# Altium integrated library Renesas Microcontroller R8C.IntLib: 628 symbols (part 10 of 33)
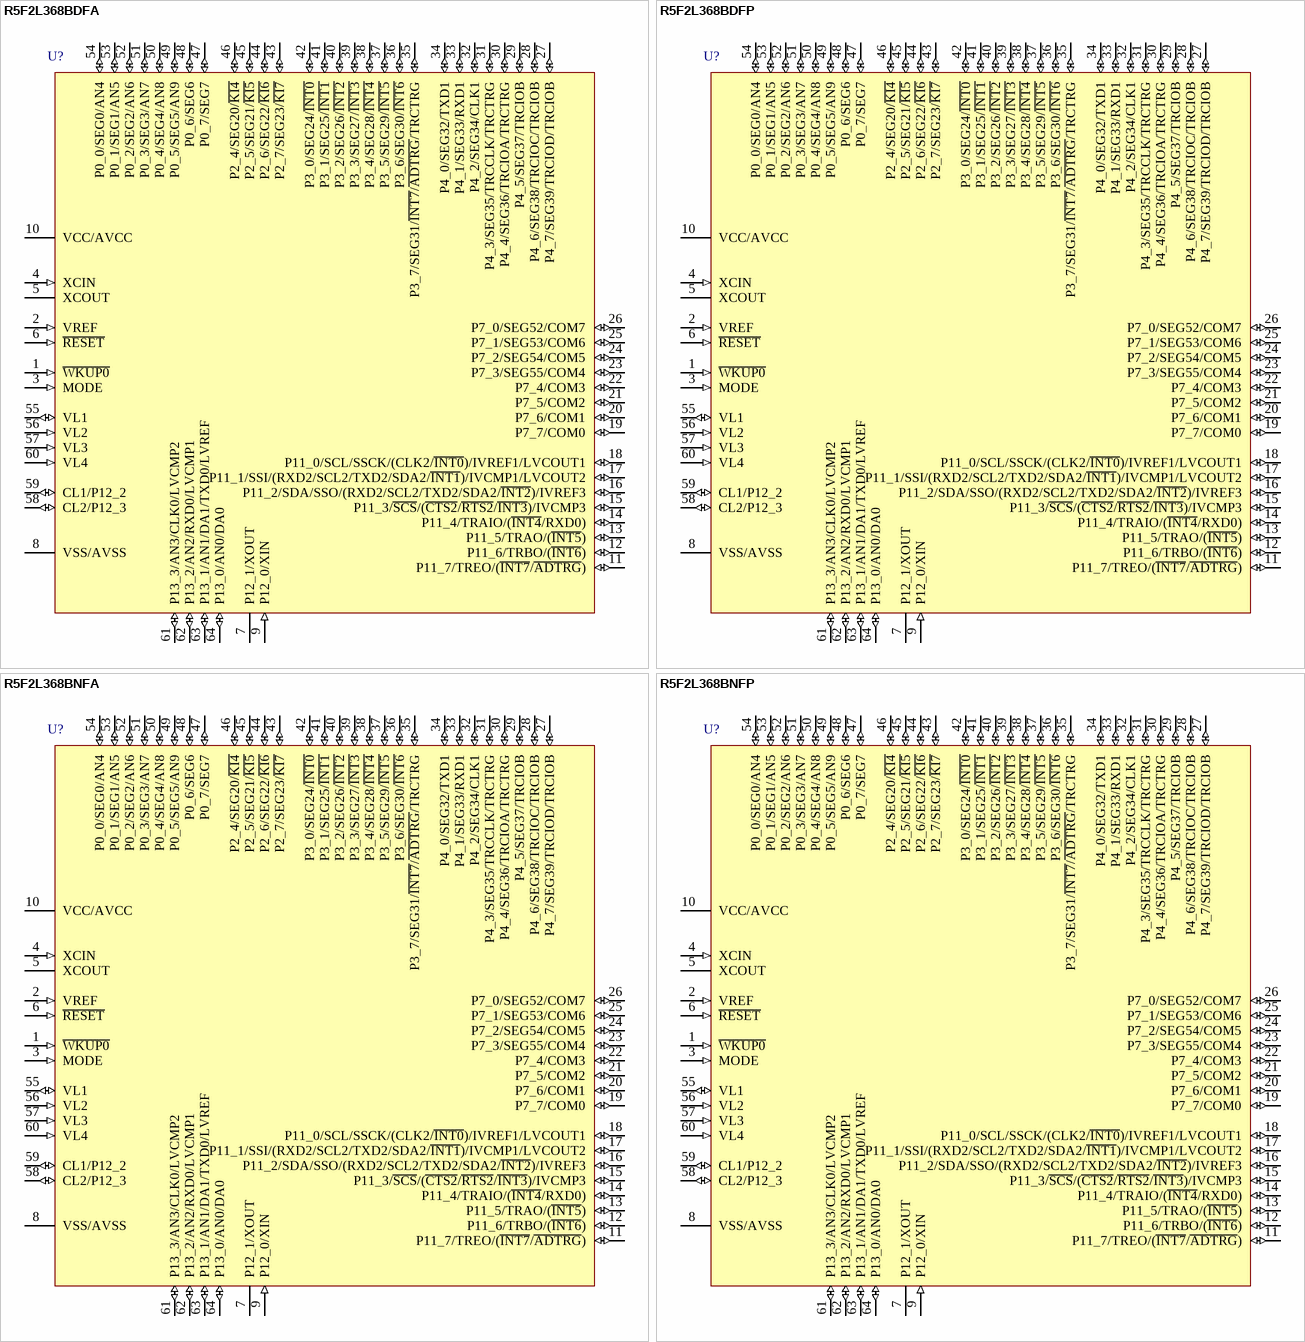
[diagram p125: symbols R5F2L368BDFA to R5F2L368BNFP]

## R5F2L368BNFP
designator U?
R8C/36B Group Single Chip 16-Bit CMOS MCU, 64K ROM, 8K RAM, N Version; Published: 30-Oct-2009; DatasheetVersion: Rev.0.30, Jan-2009; PackageVersion: Sep-2005; PackageReference: PLQP0064KB-A; Publisher: Altium Limited; PackageDescription: 64-Pin Plastic Low Profile QFP, 10 x 10 x 1.4 mm Body, 0.5 mm Pitch; Code_JEITA: P-LQFP64-10x10-0.50; Code_IPC: SQFP50P1200X1200-64; ComponentLink1Description: Manufacturer Link; ComponentLink1URL: http://sg.renesas.com/fmwk.jsp?cnt=r8c_family_landing.jsp&fp=/products/mpumcu/r8c_family/; ComponentLink2Description: Datasheet; ComponentLink2URL: http://documentation.renesas.com/eng/products/mpumcu/rej03b0243_r8cl35al35b_ds.pdf; ComponentLink3Description: Packaging Specification; ComponentLink3URL: http://sg.renesas.com/media/products/common_info/package/pdf/ic/code/plqp0064kb_a.pdf
footprint PLQP0064KB-A_N (Shrink QFP, 64-Leads, Body 10x10mm, Pitch 0.5mm, IPC Medium Density)
footprint PLQP0064KB-A_L (Shrink QFP, 64-Leads, Body 10x10mm, Pitch 0.5mm, IPC High Density)
footprint PLQP0064KB-A_M (Shrink QFP, 64-Leads, Body 10x10mm, Pitch 0.5mm, IPC Low Density)
pins: 1 ~{WKUP0} (in), 2 VREF (in), 3 MODE (in), 4 XCIN (in), 5 XCOUT, 6 ~{RESET} (in), 7 P12_1/XOUT, 8 VSS/AVSS (power), 9 P12_0/XIN (in), 10 VCC/AVCC (power), 11 P11_7/TREO/(~{INT7}/~{ADTRG}) (io), 12 P11_6/TRBO/(~{INT6}) (io), 13 P11_5/TRAO/(~{INT5}) (io), 14 P11_4/TRAIO/(~{INT4}/RXD0) (io), 15 P11_3/~{SCS}/(~{CTS2}/~{RTS2}/~{INT3})/IVCMP3 (io), 16 P11_2/SDA/SSO/(RXD2/SCL2/TXD2/SDA2/~{INT2})/IVREF3 (io), 17 P11_1/SSI/(RXD2/SCL2/TXD2/SDA2/~{INT1})/IVCMP1/LVCOUT2 (io), 18 P11_0/SCL/SSCK/(CLK2/~{INT0})/IVREF1/LVCOUT1 (io), 19 P7_7/COM0 (io), 20 P7_6/COM1 (io), 21 P7_5/COM2 (io), 22 P7_4/COM3 (io), 23 P7_3/SEG55/COM4 (io), 24 P7_2/SEG54/COM5 (io), 25 P7_1/SEG53/COM6 (io), 26 P7_0/SEG52/COM7 (io), 27 P4_7/SEG39/TRCIOD/TRCIOB (io), 28 P4_6/SEG38/TRCIOC/TRCIOB (io), 29 P4_5/SEG37/TRCIOB (io), 30 P4_4/SEG36/TRCIOA/TRCTRG (io), 31 P4_3/SEG35/TRCCLK/TRCTRG (io), 32 P4_2/SEG34/CLK1 (io), 33 P4_1/SEG33/RXD1 (io), 34 P4_0/SEG32/TXD1 (io), 35 P3_7/SEG31/~{INT7}/~{ADTRG}/TRCTRG (io), 36 P3_6/SEG30/~{INT6} (io), 37 P3_5/SEG29/~{INT5} (io), 38 P3_4/SEG28/~{INT4} (io), 39 P3_3/SEG27/~{INT3} (io), 40 P3_2/SEG26/~{INT2} (io), 41 P3_1/SEG25/~{INT1} (io), 42 P3_0/SEG24/~{INT0} (io), 43 P2_7/SEG23/~{KI7} (io), 44 P2_6/SEG22/~{KI6} (io), 45 P2_5/SEG21/~{KI5} (io), 46 P2_4/SEG20/~{KI4} (io), 47 P0_7/SEG7 (io), 48 P0_6/SEG6 (io), 49 P0_5/SEG5/AN9 (io), 50 P0_4/SEG4/AN8 (io), 51 P0_3/SEG3/AN7 (io), 52 P0_2/SEG2/AN6 (io), 53 P0_1/SEG1/AN5 (io), 54 P0_0/SEG0/AN4 (io), 55 VL1 (io), 56 VL2 (in), 57 VL3 (in), 58 CL2/P12_3 (io), 59 CL1/P12_2 (io), 60 VL4 (in), 61 P13_3/AN3/CLK0/LVCMP2 (io), 62 P13_2/AN2/RXD0/LVCMP1 (io), 63 P13_1/AN1/DA1/TXD0/LVREF (io), 64 P13_0/AN0/DA0 (io)

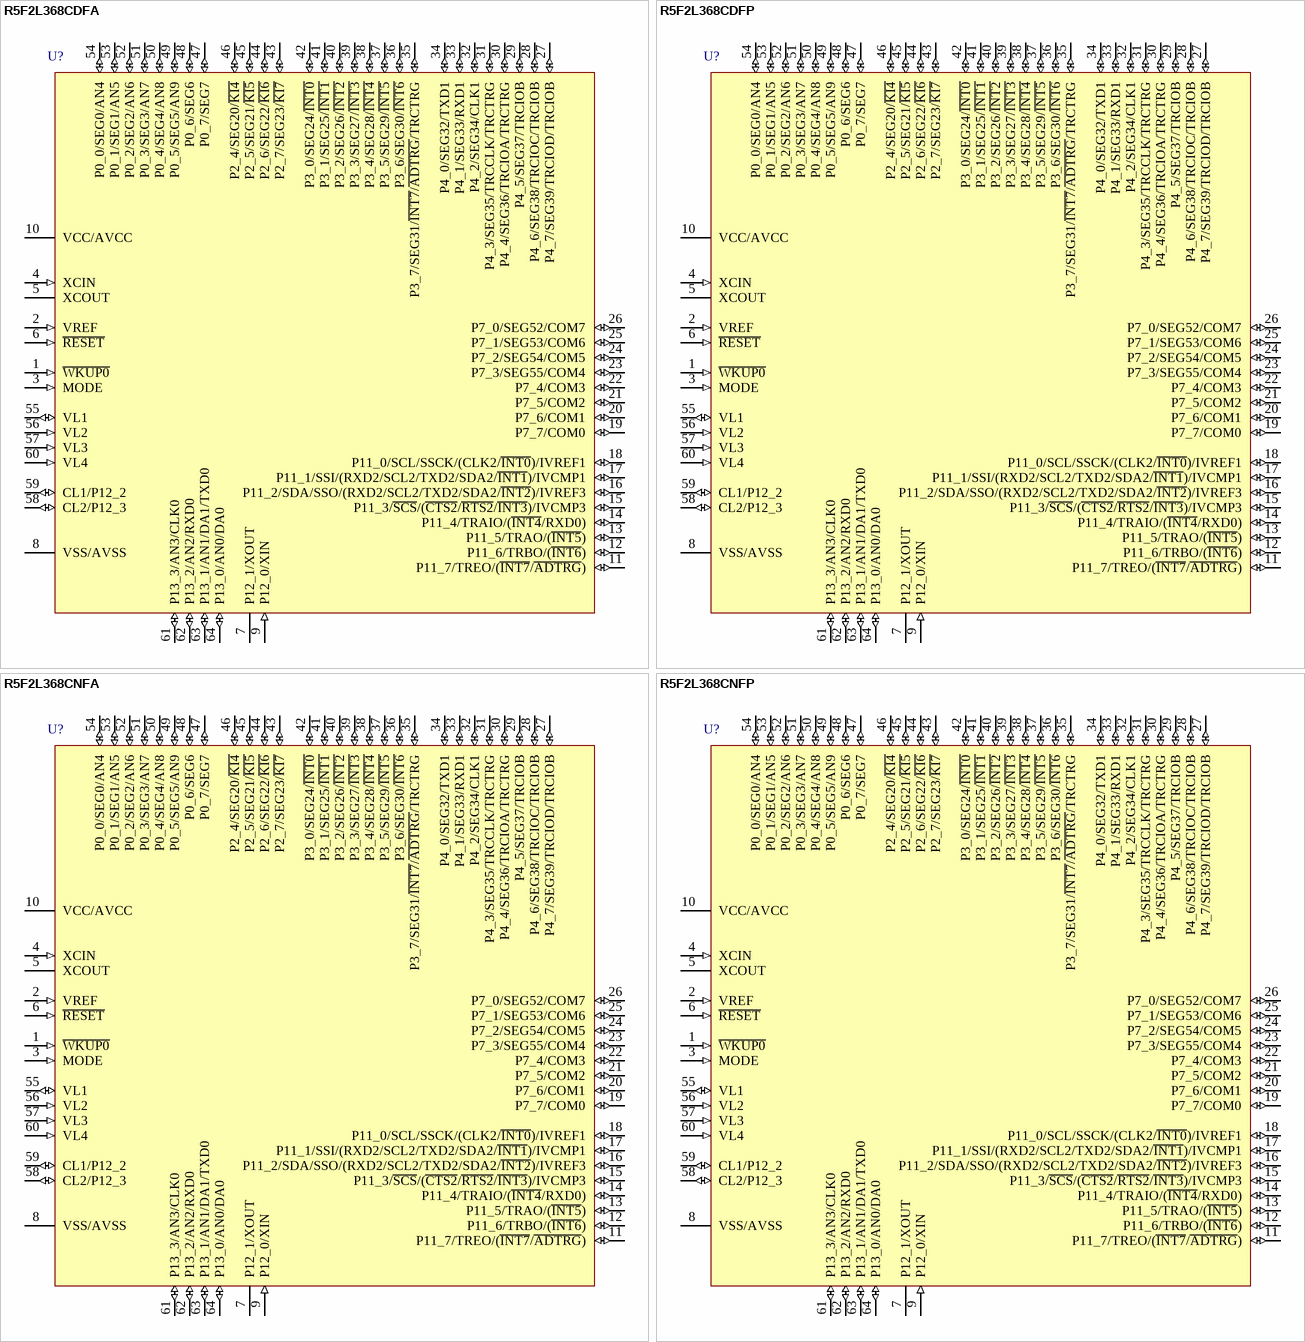
[diagram p35: symbols R5F2L368CDFA to R5F2L368CNFP]

## R5F2L368CDFA
designator U?
R8C/L36C Group Single Chip 16-Bit CMOS MCU, 64K + 4K ROM, 8K RAM, D Version; Published: 17-Feb-2010; DatasheetVersion: Rev.0.10, Oct-2009; PackageVersion: Oct-2005; PackageReference: PLQP0064GA-A; Publisher: Altium Limited; PackageDescription: 64-Pin Plastic Low Profile QFP, 14 x 14 x 1.4 mm Body, 0.8 mm Pitch; Code_JEITA: P-LQFP64-14x14-0.80; ComponentLink1Description: Manufacturer Link; ComponentLink1URL: http://sg.renesas.com/fmwk.jsp?cnt=r8c_family_landing.jsp&fp=/products/mpumcu/r8c_family/; ComponentLink2Description: Datasheet; ComponentLink2URL: http://documentation.renesas.com/eng/products/mpumcu/rej03b0293_r8cl3acds.pdf; ComponentLink3Description: Packaging Specification; ComponentLink3URL: http://sg.renesas.com/media/products/common_info/package/pdf/ic/code/plqp0064ga_a.pdf
footprint PLQP0064GA-A_N (QFP, 64-Leads, Body 14x14mm, Pitch 0.8mm, IPC Medium Density)
footprint PLQP0064GA-A_L (QFP, 64-Leads, Body 14x14mm, Pitch 0.8mm, IPC High Density)
footprint PLQP0064GA-A_M (QFP, 64-Leads, Body 14x14mm, Pitch 0.8mm, IPC Low Density)
pins: 1 ~{WKUP0} (in), 2 VREF (in), 3 MODE (in), 4 XCIN (in), 5 XCOUT, 6 ~{RESET} (in), 7 P12_1/XOUT, 8 VSS/AVSS (power), 9 P12_0/XIN (in), 10 VCC/AVCC (power), 11 P11_7/TREO/(~{INT7}/~{ADTRG}) (io), 12 P11_6/TRBO/(~{INT6}) (io), 13 P11_5/TRAO/(~{INT5}) (io), 14 P11_4/TRAIO/(~{INT4}/RXD0) (io), 15 P11_3/~{SCS}/(~{CTS2}/~{RTS2}/~{INT3})/IVCMP3 (io), 16 P11_2/SDA/SSO/(RXD2/SCL2/TXD2/SDA2/~{INT2})/IVREF3 (io), 17 P11_1/SSI/(RXD2/SCL2/TXD2/SDA2/~{INT1})/IVCMP1 (io), 18 P11_0/SCL/SSCK/(CLK2/~{INT0})/IVREF1 (io), 19 P7_7/COM0 (io), 20 P7_6/COM1 (io), 21 P7_5/COM2 (io), 22 P7_4/COM3 (io), 23 P7_3/SEG55/COM4 (io), 24 P7_2/SEG54/COM5 (io), 25 P7_1/SEG53/COM6 (io), 26 P7_0/SEG52/COM7 (io), 27 P4_7/SEG39/TRCIOD/TRCIOB (io), 28 P4_6/SEG38/TRCIOC/TRCIOB (io), 29 P4_5/SEG37/TRCIOB (io), 30 P4_4/SEG36/TRCIOA/TRCTRG (io), 31 P4_3/SEG35/TRCCLK/TRCTRG (io), 32 P4_2/SEG34/CLK1 (io), 33 P4_1/SEG33/RXD1 (io), 34 P4_0/SEG32/TXD1 (io), 35 P3_7/SEG31/~{INT7}/~{ADTRG}/TRCTRG (io), 36 P3_6/SEG30/~{INT6} (io), 37 P3_5/SEG29/~{INT5} (io), 38 P3_4/SEG28/~{INT4} (io), 39 P3_3/SEG27/~{INT3} (io), 40 P3_2/SEG26/~{INT2} (io), 41 P3_1/SEG25/~{INT1} (io), 42 P3_0/SEG24/~{INT0} (io), 43 P2_7/SEG23/~{KI7} (io), 44 P2_6/SEG22/~{KI6} (io), 45 P2_5/SEG21/~{KI5} (io), 46 P2_4/SEG20/~{KI4} (io), 47 P0_7/SEG7 (io), 48 P0_6/SEG6 (io), 49 P0_5/SEG5/AN9 (io), 50 P0_4/SEG4/AN8 (io), 51 P0_3/SEG3/AN7 (io), 52 P0_2/SEG2/AN6 (io), 53 P0_1/SEG1/AN5 (io), 54 P0_0/SEG0/AN4 (io), 55 VL1 (io), 56 VL2 (in), 57 VL3 (in), 58 CL2/P12_3 (io), 59 CL1/P12_2 (io), 60 VL4 (in), 61 P13_3/AN3/CLK0 (io), 62 P13_2/AN2/RXD0 (io), 63 P13_1/AN1/DA1/TXD0 (io), 64 P13_0/AN0/DA0 (io)

## R5F2L368CDFP
designator U?
R8C/L36C Group Single Chip 16-Bit CMOS MCU, 64K + 4K ROM, 8K RAM, D Version; Published: 17-Feb-2010; DatasheetVersion: Rev.0.10, Oct-2009; PackageVersion: Sep-2005; PackageReference: PLQP0064KB-A; Publisher: Altium Limited; PackageDescription: 64-Pin Plastic Low Profile QFP, 10 x 10 x 1.4 mm Body, 0.5 mm Pitch; Code_JEITA: P-LQFP64-10x10-0.50; Code_IPC: SQFP50P1200X1200-64; ComponentLink1Description: Manufacturer Link; ComponentLink1URL: http://sg.renesas.com/fmwk.jsp?cnt=r8c_family_landing.jsp&fp=/products/mpumcu/r8c_family/; ComponentLink2Description: Datasheet; ComponentLink2URL: http://documentation.renesas.com/eng/products/mpumcu/rej03b0293_r8cl3acds.pdf; ComponentLink3Description: Packaging Specification; ComponentLink3URL: http://sg.renesas.com/media/products/common_info/package/pdf/ic/code/plqp0064kb_a.pdf
footprint PLQP0064KB-A_N (Shrink QFP, 64-Leads, Body 10x10mm, Pitch 0.5mm, IPC Medium Density)
footprint PLQP0064KB-A_L (Shrink QFP, 64-Leads, Body 10x10mm, Pitch 0.5mm, IPC High Density)
footprint PLQP0064KB-A_M (Shrink QFP, 64-Leads, Body 10x10mm, Pitch 0.5mm, IPC Low Density)
pins: 1 ~{WKUP0} (in), 2 VREF (in), 3 MODE (in), 4 XCIN (in), 5 XCOUT, 6 ~{RESET} (in), 7 P12_1/XOUT, 8 VSS/AVSS (power), 9 P12_0/XIN (in), 10 VCC/AVCC (power), 11 P11_7/TREO/(~{INT7}/~{ADTRG}) (io), 12 P11_6/TRBO/(~{INT6}) (io), 13 P11_5/TRAO/(~{INT5}) (io), 14 P11_4/TRAIO/(~{INT4}/RXD0) (io), 15 P11_3/~{SCS}/(~{CTS2}/~{RTS2}/~{INT3})/IVCMP3 (io), 16 P11_2/SDA/SSO/(RXD2/SCL2/TXD2/SDA2/~{INT2})/IVREF3 (io), 17 P11_1/SSI/(RXD2/SCL2/TXD2/SDA2/~{INT1})/IVCMP1 (io), 18 P11_0/SCL/SSCK/(CLK2/~{INT0})/IVREF1 (io), 19 P7_7/COM0 (io), 20 P7_6/COM1 (io), 21 P7_5/COM2 (io), 22 P7_4/COM3 (io), 23 P7_3/SEG55/COM4 (io), 24 P7_2/SEG54/COM5 (io), 25 P7_1/SEG53/COM6 (io), 26 P7_0/SEG52/COM7 (io), 27 P4_7/SEG39/TRCIOD/TRCIOB (io), 28 P4_6/SEG38/TRCIOC/TRCIOB (io), 29 P4_5/SEG37/TRCIOB (io), 30 P4_4/SEG36/TRCIOA/TRCTRG (io), 31 P4_3/SEG35/TRCCLK/TRCTRG (io), 32 P4_2/SEG34/CLK1 (io), 33 P4_1/SEG33/RXD1 (io), 34 P4_0/SEG32/TXD1 (io), 35 P3_7/SEG31/~{INT7}/~{ADTRG}/TRCTRG (io), 36 P3_6/SEG30/~{INT6} (io), 37 P3_5/SEG29/~{INT5} (io), 38 P3_4/SEG28/~{INT4} (io), 39 P3_3/SEG27/~{INT3} (io), 40 P3_2/SEG26/~{INT2} (io), 41 P3_1/SEG25/~{INT1} (io), 42 P3_0/SEG24/~{INT0} (io), 43 P2_7/SEG23/~{KI7} (io), 44 P2_6/SEG22/~{KI6} (io), 45 P2_5/SEG21/~{KI5} (io), 46 P2_4/SEG20/~{KI4} (io), 47 P0_7/SEG7 (io), 48 P0_6/SEG6 (io), 49 P0_5/SEG5/AN9 (io), 50 P0_4/SEG4/AN8 (io), 51 P0_3/SEG3/AN7 (io), 52 P0_2/SEG2/AN6 (io), 53 P0_1/SEG1/AN5 (io), 54 P0_0/SEG0/AN4 (io), 55 VL1 (io), 56 VL2 (in), 57 VL3 (in), 58 CL2/P12_3 (io), 59 CL1/P12_2 (io), 60 VL4 (in), 61 P13_3/AN3/CLK0 (io), 62 P13_2/AN2/RXD0 (io), 63 P13_1/AN1/DA1/TXD0 (io), 64 P13_0/AN0/DA0 (io)

## R5F2L368CNFA
designator U?
R8C/L36C Group Single Chip 16-Bit CMOS MCU, 64K + 4K ROM, 8K RAM, N Version; Published: 17-Feb-2010; DatasheetVersion: Rev.0.10, Oct-2009; PackageVersion: Oct-2005; PackageReference: PLQP0064GA-A; Publisher: Altium Limited; PackageDescription: 64-Pin Plastic Low Profile QFP, 14 x 14 x 1.4 mm Body, 0.8 mm Pitch; Code_JEITA: P-LQFP64-14x14-0.80; ComponentLink1Description: Manufacturer Link; ComponentLink1URL: http://sg.renesas.com/fmwk.jsp?cnt=r8c_family_landing.jsp&fp=/products/mpumcu/r8c_family/; ComponentLink2Description: Datasheet; ComponentLink2URL: http://documentation.renesas.com/eng/products/mpumcu/rej03b0293_r8cl3acds.pdf; ComponentLink3Description: Packaging Specification; ComponentLink3URL: http://sg.renesas.com/media/products/common_info/package/pdf/ic/code/plqp0064ga_a.pdf
footprint PLQP0064GA-A_N (QFP, 64-Leads, Body 14x14mm, Pitch 0.8mm, IPC Medium Density)
footprint PLQP0064GA-A_L (QFP, 64-Leads, Body 14x14mm, Pitch 0.8mm, IPC High Density)
footprint PLQP0064GA-A_M (QFP, 64-Leads, Body 14x14mm, Pitch 0.8mm, IPC Low Density)
pins: 1 ~{WKUP0} (in), 2 VREF (in), 3 MODE (in), 4 XCIN (in), 5 XCOUT, 6 ~{RESET} (in), 7 P12_1/XOUT, 8 VSS/AVSS (power), 9 P12_0/XIN (in), 10 VCC/AVCC (power), 11 P11_7/TREO/(~{INT7}/~{ADTRG}) (io), 12 P11_6/TRBO/(~{INT6}) (io), 13 P11_5/TRAO/(~{INT5}) (io), 14 P11_4/TRAIO/(~{INT4}/RXD0) (io), 15 P11_3/~{SCS}/(~{CTS2}/~{RTS2}/~{INT3})/IVCMP3 (io), 16 P11_2/SDA/SSO/(RXD2/SCL2/TXD2/SDA2/~{INT2})/IVREF3 (io), 17 P11_1/SSI/(RXD2/SCL2/TXD2/SDA2/~{INT1})/IVCMP1 (io), 18 P11_0/SCL/SSCK/(CLK2/~{INT0})/IVREF1 (io), 19 P7_7/COM0 (io), 20 P7_6/COM1 (io), 21 P7_5/COM2 (io), 22 P7_4/COM3 (io), 23 P7_3/SEG55/COM4 (io), 24 P7_2/SEG54/COM5 (io), 25 P7_1/SEG53/COM6 (io), 26 P7_0/SEG52/COM7 (io), 27 P4_7/SEG39/TRCIOD/TRCIOB (io), 28 P4_6/SEG38/TRCIOC/TRCIOB (io), 29 P4_5/SEG37/TRCIOB (io), 30 P4_4/SEG36/TRCIOA/TRCTRG (io), 31 P4_3/SEG35/TRCCLK/TRCTRG (io), 32 P4_2/SEG34/CLK1 (io), 33 P4_1/SEG33/RXD1 (io), 34 P4_0/SEG32/TXD1 (io), 35 P3_7/SEG31/~{INT7}/~{ADTRG}/TRCTRG (io), 36 P3_6/SEG30/~{INT6} (io), 37 P3_5/SEG29/~{INT5} (io), 38 P3_4/SEG28/~{INT4} (io), 39 P3_3/SEG27/~{INT3} (io), 40 P3_2/SEG26/~{INT2} (io), 41 P3_1/SEG25/~{INT1} (io), 42 P3_0/SEG24/~{INT0} (io), 43 P2_7/SEG23/~{KI7} (io), 44 P2_6/SEG22/~{KI6} (io), 45 P2_5/SEG21/~{KI5} (io), 46 P2_4/SEG20/~{KI4} (io), 47 P0_7/SEG7 (io), 48 P0_6/SEG6 (io), 49 P0_5/SEG5/AN9 (io), 50 P0_4/SEG4/AN8 (io), 51 P0_3/SEG3/AN7 (io), 52 P0_2/SEG2/AN6 (io), 53 P0_1/SEG1/AN5 (io), 54 P0_0/SEG0/AN4 (io), 55 VL1 (io), 56 VL2 (in), 57 VL3 (in), 58 CL2/P12_3 (io), 59 CL1/P12_2 (io), 60 VL4 (in), 61 P13_3/AN3/CLK0 (io), 62 P13_2/AN2/RXD0 (io), 63 P13_1/AN1/DA1/TXD0 (io), 64 P13_0/AN0/DA0 (io)

## R5F2L368CNFP
designator U?
R8C/L36C Group Single Chip 16-Bit CMOS MCU, 64K + 4K ROM, 8K RAM, N Version; Published: 17-Feb-2010; DatasheetVersion: Rev.0.10, Oct-2009; PackageVersion: Sep-2005; PackageReference: PLQP0064KB-A; Publisher: Altium Limited; PackageDescription: 64-Pin Plastic Low Profile QFP, 10 x 10 x 1.4 mm Body, 0.5 mm Pitch; Code_JEITA: P-LQFP64-10x10-0.50; Code_IPC: SQFP50P1200X1200-64; ComponentLink1Description: Manufacturer Link; ComponentLink1URL: http://sg.renesas.com/fmwk.jsp?cnt=r8c_family_landing.jsp&fp=/products/mpumcu/r8c_family/; ComponentLink2Description: Datasheet; ComponentLink2URL: http://documentation.renesas.com/eng/products/mpumcu/rej03b0293_r8cl3acds.pdf; ComponentLink3Description: Packaging Specification; ComponentLink3URL: http://sg.renesas.com/media/products/common_info/package/pdf/ic/code/plqp0064kb_a.pdf
footprint PLQP0064KB-A_N (Shrink QFP, 64-Leads, Body 10x10mm, Pitch 0.5mm, IPC Medium Density)
footprint PLQP0064KB-A_L (Shrink QFP, 64-Leads, Body 10x10mm, Pitch 0.5mm, IPC High Density)
footprint PLQP0064KB-A_M (Shrink QFP, 64-Leads, Body 10x10mm, Pitch 0.5mm, IPC Low Density)
pins: 1 ~{WKUP0} (in), 2 VREF (in), 3 MODE (in), 4 XCIN (in), 5 XCOUT, 6 ~{RESET} (in), 7 P12_1/XOUT, 8 VSS/AVSS (power), 9 P12_0/XIN (in), 10 VCC/AVCC (power), 11 P11_7/TREO/(~{INT7}/~{ADTRG}) (io), 12 P11_6/TRBO/(~{INT6}) (io), 13 P11_5/TRAO/(~{INT5}) (io), 14 P11_4/TRAIO/(~{INT4}/RXD0) (io), 15 P11_3/~{SCS}/(~{CTS2}/~{RTS2}/~{INT3})/IVCMP3 (io), 16 P11_2/SDA/SSO/(RXD2/SCL2/TXD2/SDA2/~{INT2})/IVREF3 (io), 17 P11_1/SSI/(RXD2/SCL2/TXD2/SDA2/~{INT1})/IVCMP1 (io), 18 P11_0/SCL/SSCK/(CLK2/~{INT0})/IVREF1 (io), 19 P7_7/COM0 (io), 20 P7_6/COM1 (io), 21 P7_5/COM2 (io), 22 P7_4/COM3 (io), 23 P7_3/SEG55/COM4 (io), 24 P7_2/SEG54/COM5 (io), 25 P7_1/SEG53/COM6 (io), 26 P7_0/SEG52/COM7 (io), 27 P4_7/SEG39/TRCIOD/TRCIOB (io), 28 P4_6/SEG38/TRCIOC/TRCIOB (io), 29 P4_5/SEG37/TRCIOB (io), 30 P4_4/SEG36/TRCIOA/TRCTRG (io), 31 P4_3/SEG35/TRCCLK/TRCTRG (io), 32 P4_2/SEG34/CLK1 (io), 33 P4_1/SEG33/RXD1 (io), 34 P4_0/SEG32/TXD1 (io), 35 P3_7/SEG31/~{INT7}/~{ADTRG}/TRCTRG (io), 36 P3_6/SEG30/~{INT6} (io), 37 P3_5/SEG29/~{INT5} (io), 38 P3_4/SEG28/~{INT4} (io), 39 P3_3/SEG27/~{INT3} (io), 40 P3_2/SEG26/~{INT2} (io), 41 P3_1/SEG25/~{INT1} (io), 42 P3_0/SEG24/~{INT0} (io), 43 P2_7/SEG23/~{KI7} (io), 44 P2_6/SEG22/~{KI6} (io), 45 P2_5/SEG21/~{KI5} (io), 46 P2_4/SEG20/~{KI4} (io), 47 P0_7/SEG7 (io), 48 P0_6/SEG6 (io), 49 P0_5/SEG5/AN9 (io), 50 P0_4/SEG4/AN8 (io), 51 P0_3/SEG3/AN7 (io), 52 P0_2/SEG2/AN6 (io), 53 P0_1/SEG1/AN5 (io), 54 P0_0/SEG0/AN4 (io), 55 VL1 (io), 56 VL2 (in), 57 VL3 (in), 58 CL2/P12_3 (io), 59 CL1/P12_2 (io), 60 VL4 (in), 61 P13_3/AN3/CLK0 (io), 62 P13_2/AN2/RXD0 (io), 63 P13_1/AN1/DA1/TXD0 (io), 64 P13_0/AN0/DA0 (io)

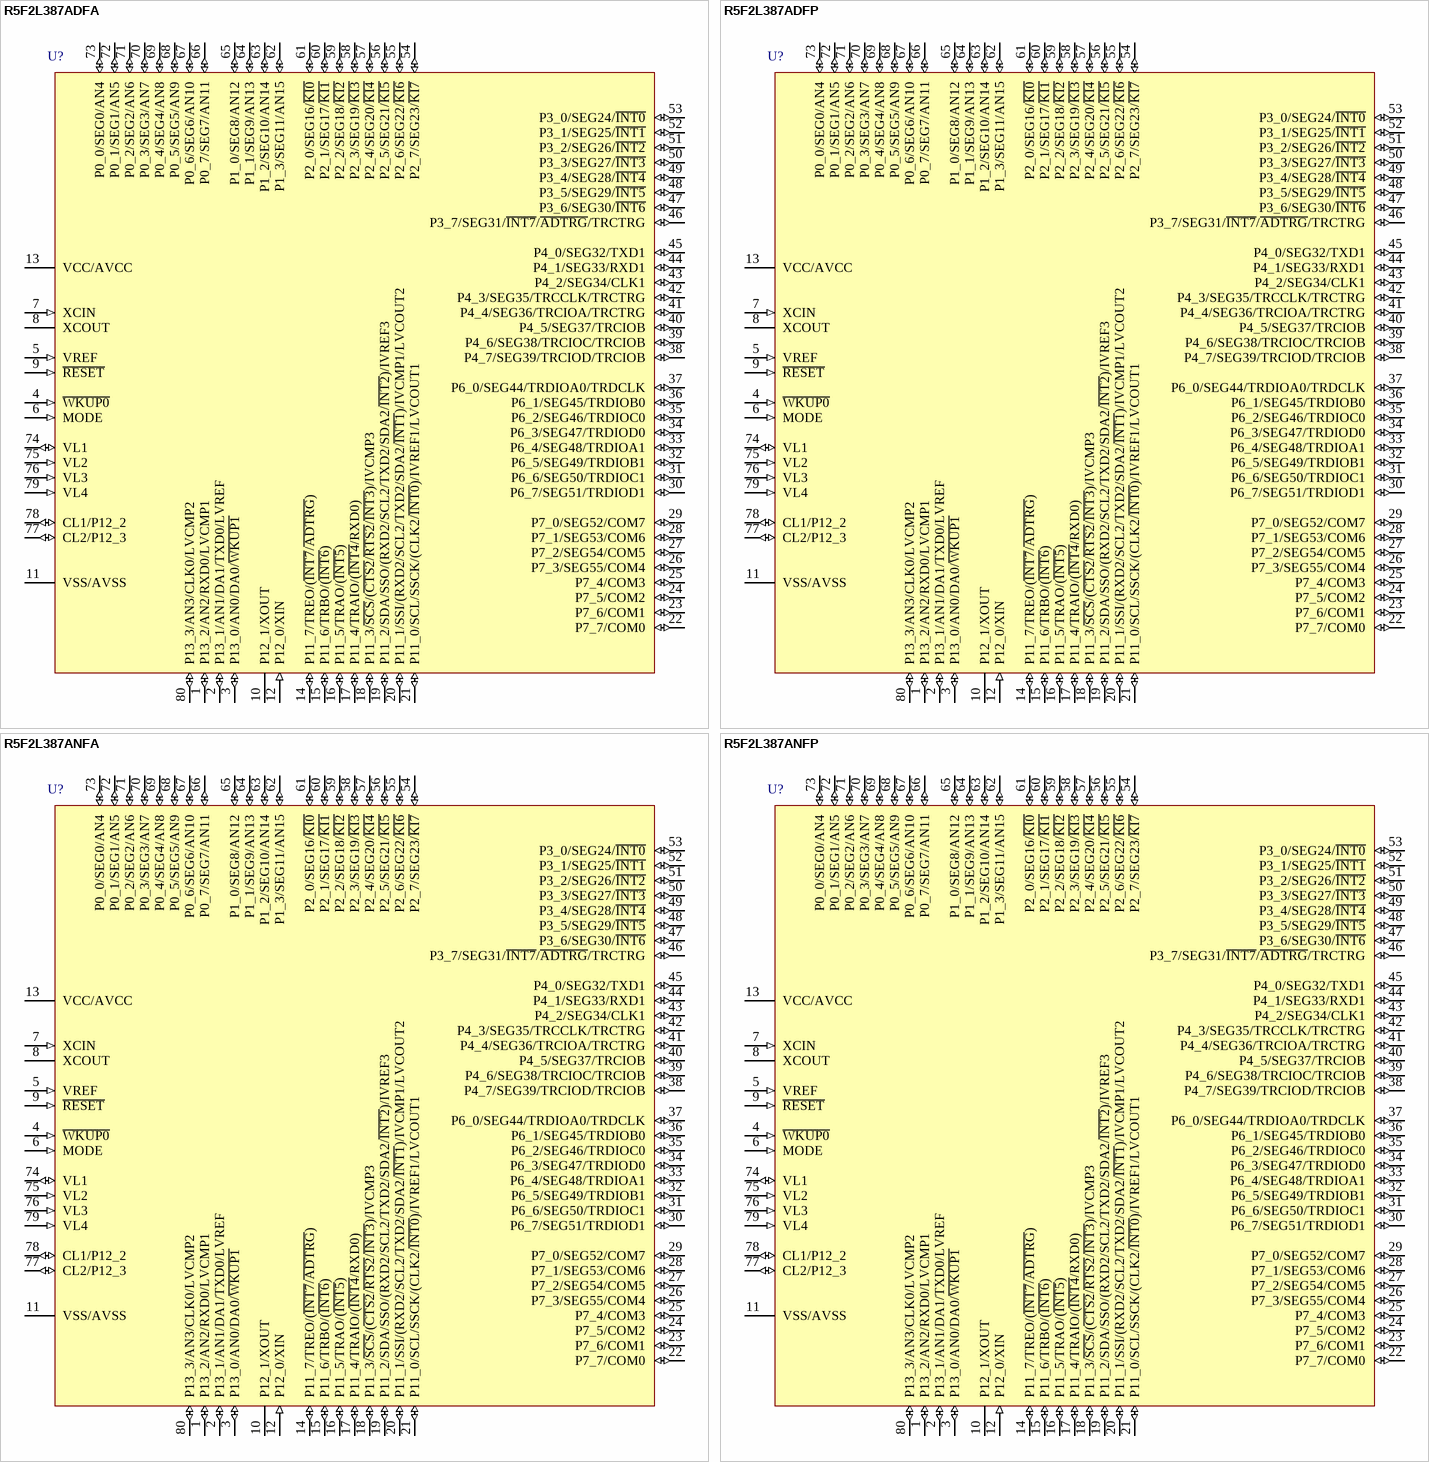
[diagram p36: symbols R5F2L387ADFA to R5F2L387ANFP]

## R5F2L387ADFA
designator U?
R8C/38A Group Single Chip 16-Bit CMOS MCU, 48K ROM + 1K x4 Data Flash, 6K RAM, D Version; Published: 30-Oct-2009; DatasheetVersion: Rev.0.30, Jan-2009; PackageVersion: Sep-2005; PackageReference: PLQP0080JA-A; Publisher: Altium Limited; PackageDescription: 80-Pin Plastic Low Profile QFP, 14 x 14 x 1.4 mm Body, 0.65 mm Pitch; Code_JEITA: P-LQFP80-14x14-0.65; ComponentLink1Description: Manufacturer Link; ComponentLink1URL: http://sg.renesas.com/fmwk.jsp?cnt=r8c_family_landing.jsp&fp=/products/mpumcu/r8c_family/; ComponentLink2Description: Datasheet; ComponentLink2URL: http://documentation.renesas.com/eng/products/mpumcu/rej03b0243_r8cl35al35b_ds.pdf; ComponentLink3Description: Packaging Specification; ComponentLink3URL: http://sg.renesas.com/media/products/common_info/package/pdf/ic/code/plqp0080ja_a.pdf
footprint PLQP0080JA-A_N (QFP, 80-Leads, Body 14x14mm, Pitch 0.65mm, IPC Medium Density)
footprint PLQP0080JA-A_L (QFP, 80-Leads, Body 14x14mm, Pitch 0.65mm, IPC High Density)
footprint PLQP0080JA-A_M (QFP, 80-Leads, Body 14x14mm, Pitch 0.65mm, IPC Low Density)
pins: 1 P13_2/AN2/RXD0/LVCMP1 (io), 2 P13_1/AN1/DA1/TXD0/LVREF (io), 3 P13_0/AN0/DA0/~{WKUP1} (io), 4 ~{WKUP0} (in), 5 VREF (in), 6 MODE (in), 7 XCIN (in), 8 XCOUT, 9 ~{RESET} (in), 10 P12_1/XOUT, 11 VSS/AVSS (power), 12 P12_0/XIN (in), 13 VCC/AVCC (power), 14 P11_7/TREO/(~{INT7}/~{ADTRG}) (io), 15 P11_6/TRBO/(~{INT6}) (io), 16 P11_5/TRAO/(~{INT5}) (io), 17 P11_4/TRAIO/(~{INT4}/RXD0) (io), 18 P11_3/~{SCS}/(~{CTS2}/~{RTS2}/~{INT3})/IVCMP3 (io), 19 P11_2/SDA/SSO/(RXD2/SCL2/TXD2/SDA2/~{INT2})/IVREF3 (io), 20 P11_1/SSI/(RXD2/SCL2/TXD2/SDA2/~{INT1})/IVCMP1/LVCOUT2 (io), 21 P11_0/SCL/SSCK/(CLK2/~{INT0})/IVREF1/LVCOUT1 (io), 22 P7_7/COM0 (io), 23 P7_6/COM1 (io), 24 P7_5/COM2 (io), 25 P7_4/COM3 (io), 26 P7_3/SEG55/COM4 (io), 27 P7_2/SEG54/COM5 (io), 28 P7_1/SEG53/COM6 (io), 29 P7_0/SEG52/COM7 (io), 30 P6_7/SEG51/TRDIOD1 (io), 31 P6_6/SEG50/TRDIOC1 (io), 32 P6_5/SEG49/TRDIOB1 (io), 33 P6_4/SEG48/TRDIOA1 (io), 34 P6_3/SEG47/TRDIOD0 (io), 35 P6_2/SEG46/TRDIOC0 (io), 36 P6_1/SEG45/TRDIOB0 (io), 37 P6_0/SEG44/TRDIOA0/TRDCLK (io), 38 P4_7/SEG39/TRCIOD/TRCIOB (io), 39 P4_6/SEG38/TRCIOC/TRCIOB (io), 40 P4_5/SEG37/TRCIOB (io), 41 P4_4/SEG36/TRCIOA/TRCTRG (io), 42 P4_3/SEG35/TRCCLK/TRCTRG (io), 43 P4_2/SEG34/CLK1 (io), 44 P4_1/SEG33/RXD1 (io), 45 P4_0/SEG32/TXD1 (io), 46 P3_7/SEG31/~{INT7}/~{ADTRG}/TRCTRG (io), 47 P3_6/SEG30/~{INT6} (io), 48 P3_5/SEG29/~{INT5} (io), 49 P3_4/SEG28/~{INT4} (io), 50 P3_3/SEG27/~{INT3} (io), 51 P3_2/SEG26/~{INT2} (io), 52 P3_1/SEG25/~{INT1} (io), 53 P3_0/SEG24/~{INT0} (io), 54 P2_7/SEG23/~{KI7} (io), 55 P2_6/SEG22/~{KI6} (io), 56 P2_5/SEG21/~{KI5} (io), 57 P2_4/SEG20/~{KI4} (io), 58 P2_3/SEG19/~{KI3} (io), 59 P2_2/SEG18/~{KI2} (io), 60 P2_1/SEG17/~{KI1} (io), 61 P2_0/SEG16/~{KI0} (io), 62 P1_3/SEG11/AN15 (io), 63 P1_2/SEG10/AN14 (io), 64 P1_1/SEG9/AN13 (io), 65 P1_0/SEG8/AN12 (io), 66 P0_7/SEG7/AN11 (io), 67 P0_6/SEG6/AN10 (io), 68 P0_5/SEG5/AN9 (io), 69 P0_4/SEG4/AN8 (io), 70 P0_3/SEG3/AN7 (io), 71 P0_2/SEG2/AN6 (io), 72 P0_1/SEG1/AN5 (io), 73 P0_0/SEG0/AN4 (io), 74 VL1 (io), 75 VL2 (in), 76 VL3 (in), 77 CL2/P12_3 (io), 78 CL1/P12_2 (io), 79 VL4 (in), 80 P13_3/AN3/CLK0/LVCMP2 (io)

## R5F2L387ADFP
designator U?
R8C/38A Group Single Chip 16-Bit CMOS MCU, 48K ROM + 1K x4 Data Flash, 6K RAM, D Version; Published: 30-Oct-2009; DatasheetVersion: Rev.0.30, Jan-2009; PackageVersion: Sep-2005; PackageReference: PLQP0080KB-A; Publisher: Altium Limited; PackageDescription: 80-Pin Plastic Low Profile QFP, 12 x 12 x 1.4 mm Body, 0.5 mm Pitch; Code_JEITA: P-LQFP80-12x12-0.50; Code_IPC: SQFP50P1400X1400-80; ComponentLink1Description: Manufacturer Link; ComponentLink1URL: http://sg.renesas.com/fmwk.jsp?cnt=r8c_family_landing.jsp&fp=/products/mpumcu/r8c_family/; ComponentLink2Description: Datasheet; ComponentLink2URL: http://documentation.renesas.com/eng/products/mpumcu/rej03b0243_r8cl35al35b_ds.pdf; ComponentLink3Description: Packaging Specification; ComponentLink3URL: http://sg.renesas.com/media/products/common_info/package/pdf/ic/code/plqp0080kb_a.pdf
footprint PLQP0080KB-A_N (Shrink QFP, 80-Leads, Body 12x12mm, Pitch 0.5mm, IPC Medium Density)
footprint PLQP0080KB-A_L (Shrink QFP, 80-Leads, Body 12x12mm, Pitch 0.5mm, IPC High Density)
footprint PLQP0080KB-A_M (Shrink QFP, 80-Leads, Body 12x12mm, Pitch 0.5mm, IPC Low Density)
pins: 1 P13_2/AN2/RXD0/LVCMP1 (io), 2 P13_1/AN1/DA1/TXD0/LVREF (io), 3 P13_0/AN0/DA0/~{WKUP1} (io), 4 ~{WKUP0} (in), 5 VREF (in), 6 MODE (in), 7 XCIN (in), 8 XCOUT, 9 ~{RESET} (in), 10 P12_1/XOUT, 11 VSS/AVSS (power), 12 P12_0/XIN (in), 13 VCC/AVCC (power), 14 P11_7/TREO/(~{INT7}/~{ADTRG}) (io), 15 P11_6/TRBO/(~{INT6}) (io), 16 P11_5/TRAO/(~{INT5}) (io), 17 P11_4/TRAIO/(~{INT4}/RXD0) (io), 18 P11_3/~{SCS}/(~{CTS2}/~{RTS2}/~{INT3})/IVCMP3 (io), 19 P11_2/SDA/SSO/(RXD2/SCL2/TXD2/SDA2/~{INT2})/IVREF3 (io), 20 P11_1/SSI/(RXD2/SCL2/TXD2/SDA2/~{INT1})/IVCMP1/LVCOUT2 (io), 21 P11_0/SCL/SSCK/(CLK2/~{INT0})/IVREF1/LVCOUT1 (io), 22 P7_7/COM0 (io), 23 P7_6/COM1 (io), 24 P7_5/COM2 (io), 25 P7_4/COM3 (io), 26 P7_3/SEG55/COM4 (io), 27 P7_2/SEG54/COM5 (io), 28 P7_1/SEG53/COM6 (io), 29 P7_0/SEG52/COM7 (io), 30 P6_7/SEG51/TRDIOD1 (io), 31 P6_6/SEG50/TRDIOC1 (io), 32 P6_5/SEG49/TRDIOB1 (io), 33 P6_4/SEG48/TRDIOA1 (io), 34 P6_3/SEG47/TRDIOD0 (io), 35 P6_2/SEG46/TRDIOC0 (io), 36 P6_1/SEG45/TRDIOB0 (io), 37 P6_0/SEG44/TRDIOA0/TRDCLK (io), 38 P4_7/SEG39/TRCIOD/TRCIOB (io), 39 P4_6/SEG38/TRCIOC/TRCIOB (io), 40 P4_5/SEG37/TRCIOB (io), 41 P4_4/SEG36/TRCIOA/TRCTRG (io), 42 P4_3/SEG35/TRCCLK/TRCTRG (io), 43 P4_2/SEG34/CLK1 (io), 44 P4_1/SEG33/RXD1 (io), 45 P4_0/SEG32/TXD1 (io), 46 P3_7/SEG31/~{INT7}/~{ADTRG}/TRCTRG (io), 47 P3_6/SEG30/~{INT6} (io), 48 P3_5/SEG29/~{INT5} (io), 49 P3_4/SEG28/~{INT4} (io), 50 P3_3/SEG27/~{INT3} (io), 51 P3_2/SEG26/~{INT2} (io), 52 P3_1/SEG25/~{INT1} (io), 53 P3_0/SEG24/~{INT0} (io), 54 P2_7/SEG23/~{KI7} (io), 55 P2_6/SEG22/~{KI6} (io), 56 P2_5/SEG21/~{KI5} (io), 57 P2_4/SEG20/~{KI4} (io), 58 P2_3/SEG19/~{KI3} (io), 59 P2_2/SEG18/~{KI2} (io), 60 P2_1/SEG17/~{KI1} (io), 61 P2_0/SEG16/~{KI0} (io), 62 P1_3/SEG11/AN15 (io), 63 P1_2/SEG10/AN14 (io), 64 P1_1/SEG9/AN13 (io), 65 P1_0/SEG8/AN12 (io), 66 P0_7/SEG7/AN11 (io), 67 P0_6/SEG6/AN10 (io), 68 P0_5/SEG5/AN9 (io), 69 P0_4/SEG4/AN8 (io), 70 P0_3/SEG3/AN7 (io), 71 P0_2/SEG2/AN6 (io), 72 P0_1/SEG1/AN5 (io), 73 P0_0/SEG0/AN4 (io), 74 VL1 (io), 75 VL2 (in), 76 VL3 (in), 77 CL2/P12_3 (io), 78 CL1/P12_2 (io), 79 VL4 (in), 80 P13_3/AN3/CLK0/LVCMP2 (io)

## R5F2L387ANFA
designator U?
R8C/38A Group Single Chip 16-Bit CMOS MCU, 48K ROM + 1K x4 Data Flash, 6K RAM, N Version; Published: 30-Oct-2009; DatasheetVersion: Rev.0.30, Jan-2009; PackageVersion: Sep-2005; PackageReference: PLQP0080JA-A; Publisher: Altium Limited; PackageDescription: 80-Pin Plastic Low Profile QFP, 14 x 14 x 1.4 mm Body, 0.65 mm Pitch; Code_JEITA: P-LQFP80-14x14-0.65; ComponentLink1Description: Manufacturer Link; ComponentLink1URL: http://sg.renesas.com/fmwk.jsp?cnt=r8c_family_landing.jsp&fp=/products/mpumcu/r8c_family/; ComponentLink2Description: Datasheet; ComponentLink2URL: http://documentation.renesas.com/eng/products/mpumcu/rej03b0243_r8cl35al35b_ds.pdf; ComponentLink3Description: Packaging Specification; ComponentLink3URL: http://sg.renesas.com/media/products/common_info/package/pdf/ic/code/plqp0080ja_a.pdf
footprint PLQP0080JA-A_N (QFP, 80-Leads, Body 14x14mm, Pitch 0.65mm, IPC Medium Density)
footprint PLQP0080JA-A_L (QFP, 80-Leads, Body 14x14mm, Pitch 0.65mm, IPC High Density)
footprint PLQP0080JA-A_M (QFP, 80-Leads, Body 14x14mm, Pitch 0.65mm, IPC Low Density)
pins: 1 P13_2/AN2/RXD0/LVCMP1 (io), 2 P13_1/AN1/DA1/TXD0/LVREF (io), 3 P13_0/AN0/DA0/~{WKUP1} (io), 4 ~{WKUP0} (in), 5 VREF (in), 6 MODE (in), 7 XCIN (in), 8 XCOUT, 9 ~{RESET} (in), 10 P12_1/XOUT, 11 VSS/AVSS (power), 12 P12_0/XIN (in), 13 VCC/AVCC (power), 14 P11_7/TREO/(~{INT7}/~{ADTRG}) (io), 15 P11_6/TRBO/(~{INT6}) (io), 16 P11_5/TRAO/(~{INT5}) (io), 17 P11_4/TRAIO/(~{INT4}/RXD0) (io), 18 P11_3/~{SCS}/(~{CTS2}/~{RTS2}/~{INT3})/IVCMP3 (io), 19 P11_2/SDA/SSO/(RXD2/SCL2/TXD2/SDA2/~{INT2})/IVREF3 (io), 20 P11_1/SSI/(RXD2/SCL2/TXD2/SDA2/~{INT1})/IVCMP1/LVCOUT2 (io), 21 P11_0/SCL/SSCK/(CLK2/~{INT0})/IVREF1/LVCOUT1 (io), 22 P7_7/COM0 (io), 23 P7_6/COM1 (io), 24 P7_5/COM2 (io), 25 P7_4/COM3 (io), 26 P7_3/SEG55/COM4 (io), 27 P7_2/SEG54/COM5 (io), 28 P7_1/SEG53/COM6 (io), 29 P7_0/SEG52/COM7 (io), 30 P6_7/SEG51/TRDIOD1 (io), 31 P6_6/SEG50/TRDIOC1 (io), 32 P6_5/SEG49/TRDIOB1 (io), 33 P6_4/SEG48/TRDIOA1 (io), 34 P6_3/SEG47/TRDIOD0 (io), 35 P6_2/SEG46/TRDIOC0 (io), 36 P6_1/SEG45/TRDIOB0 (io), 37 P6_0/SEG44/TRDIOA0/TRDCLK (io), 38 P4_7/SEG39/TRCIOD/TRCIOB (io), 39 P4_6/SEG38/TRCIOC/TRCIOB (io), 40 P4_5/SEG37/TRCIOB (io), 41 P4_4/SEG36/TRCIOA/TRCTRG (io), 42 P4_3/SEG35/TRCCLK/TRCTRG (io), 43 P4_2/SEG34/CLK1 (io), 44 P4_1/SEG33/RXD1 (io), 45 P4_0/SEG32/TXD1 (io), 46 P3_7/SEG31/~{INT7}/~{ADTRG}/TRCTRG (io), 47 P3_6/SEG30/~{INT6} (io), 48 P3_5/SEG29/~{INT5} (io), 49 P3_4/SEG28/~{INT4} (io), 50 P3_3/SEG27/~{INT3} (io), 51 P3_2/SEG26/~{INT2} (io), 52 P3_1/SEG25/~{INT1} (io), 53 P3_0/SEG24/~{INT0} (io), 54 P2_7/SEG23/~{KI7} (io), 55 P2_6/SEG22/~{KI6} (io), 56 P2_5/SEG21/~{KI5} (io), 57 P2_4/SEG20/~{KI4} (io), 58 P2_3/SEG19/~{KI3} (io), 59 P2_2/SEG18/~{KI2} (io), 60 P2_1/SEG17/~{KI1} (io), 61 P2_0/SEG16/~{KI0} (io), 62 P1_3/SEG11/AN15 (io), 63 P1_2/SEG10/AN14 (io), 64 P1_1/SEG9/AN13 (io), 65 P1_0/SEG8/AN12 (io), 66 P0_7/SEG7/AN11 (io), 67 P0_6/SEG6/AN10 (io), 68 P0_5/SEG5/AN9 (io), 69 P0_4/SEG4/AN8 (io), 70 P0_3/SEG3/AN7 (io), 71 P0_2/SEG2/AN6 (io), 72 P0_1/SEG1/AN5 (io), 73 P0_0/SEG0/AN4 (io), 74 VL1 (io), 75 VL2 (in), 76 VL3 (in), 77 CL2/P12_3 (io), 78 CL1/P12_2 (io), 79 VL4 (in), 80 P13_3/AN3/CLK0/LVCMP2 (io)

## R5F2L387ANFP
designator U?
R8C/38A Group Single Chip 16-Bit CMOS MCU, 48K ROM + 1K x4 Data Flash, 6K RAM, N Version; Published: 30-Oct-2009; DatasheetVersion: Rev.0.30, Jan-2009; PackageVersion: Sep-2005; PackageReference: PLQP0080KB-A; Publisher: Altium Limited; PackageDescription: 80-Pin Plastic Low Profile QFP, 12 x 12 x 1.4 mm Body, 0.5 mm Pitch; Code_JEITA: P-LQFP80-12x12-0.50; Code_IPC: SQFP50P1400X1400-80; ComponentLink1Description: Manufacturer Link; ComponentLink1URL: http://sg.renesas.com/fmwk.jsp?cnt=r8c_family_landing.jsp&fp=/products/mpumcu/r8c_family/; ComponentLink2Description: Datasheet; ComponentLink2URL: http://documentation.renesas.com/eng/products/mpumcu/rej03b0243_r8cl35al35b_ds.pdf; ComponentLink3Description: Packaging Specification; ComponentLink3URL: http://sg.renesas.com/media/products/common_info/package/pdf/ic/code/plqp0080kb_a.pdf
footprint PLQP0080KB-A_N (Shrink QFP, 80-Leads, Body 12x12mm, Pitch 0.5mm, IPC Medium Density)
footprint PLQP0080KB-A_L (Shrink QFP, 80-Leads, Body 12x12mm, Pitch 0.5mm, IPC High Density)
footprint PLQP0080KB-A_M (Shrink QFP, 80-Leads, Body 12x12mm, Pitch 0.5mm, IPC Low Density)
pins: 1 P13_2/AN2/RXD0/LVCMP1 (io), 2 P13_1/AN1/DA1/TXD0/LVREF (io), 3 P13_0/AN0/DA0/~{WKUP1} (io), 4 ~{WKUP0} (in), 5 VREF (in), 6 MODE (in), 7 XCIN (in), 8 XCOUT, 9 ~{RESET} (in), 10 P12_1/XOUT, 11 VSS/AVSS (power), 12 P12_0/XIN (in), 13 VCC/AVCC (power), 14 P11_7/TREO/(~{INT7}/~{ADTRG}) (io), 15 P11_6/TRBO/(~{INT6}) (io), 16 P11_5/TRAO/(~{INT5}) (io), 17 P11_4/TRAIO/(~{INT4}/RXD0) (io), 18 P11_3/~{SCS}/(~{CTS2}/~{RTS2}/~{INT3})/IVCMP3 (io), 19 P11_2/SDA/SSO/(RXD2/SCL2/TXD2/SDA2/~{INT2})/IVREF3 (io), 20 P11_1/SSI/(RXD2/SCL2/TXD2/SDA2/~{INT1})/IVCMP1/LVCOUT2 (io), 21 P11_0/SCL/SSCK/(CLK2/~{INT0})/IVREF1/LVCOUT1 (io), 22 P7_7/COM0 (io), 23 P7_6/COM1 (io), 24 P7_5/COM2 (io), 25 P7_4/COM3 (io), 26 P7_3/SEG55/COM4 (io), 27 P7_2/SEG54/COM5 (io), 28 P7_1/SEG53/COM6 (io), 29 P7_0/SEG52/COM7 (io), 30 P6_7/SEG51/TRDIOD1 (io), 31 P6_6/SEG50/TRDIOC1 (io), 32 P6_5/SEG49/TRDIOB1 (io), 33 P6_4/SEG48/TRDIOA1 (io), 34 P6_3/SEG47/TRDIOD0 (io), 35 P6_2/SEG46/TRDIOC0 (io), 36 P6_1/SEG45/TRDIOB0 (io), 37 P6_0/SEG44/TRDIOA0/TRDCLK (io), 38 P4_7/SEG39/TRCIOD/TRCIOB (io), 39 P4_6/SEG38/TRCIOC/TRCIOB (io), 40 P4_5/SEG37/TRCIOB (io), 41 P4_4/SEG36/TRCIOA/TRCTRG (io), 42 P4_3/SEG35/TRCCLK/TRCTRG (io), 43 P4_2/SEG34/CLK1 (io), 44 P4_1/SEG33/RXD1 (io), 45 P4_0/SEG32/TXD1 (io), 46 P3_7/SEG31/~{INT7}/~{ADTRG}/TRCTRG (io), 47 P3_6/SEG30/~{INT6} (io), 48 P3_5/SEG29/~{INT5} (io), 49 P3_4/SEG28/~{INT4} (io), 50 P3_3/SEG27/~{INT3} (io), 51 P3_2/SEG26/~{INT2} (io), 52 P3_1/SEG25/~{INT1} (io), 53 P3_0/SEG24/~{INT0} (io), 54 P2_7/SEG23/~{KI7} (io), 55 P2_6/SEG22/~{KI6} (io), 56 P2_5/SEG21/~{KI5} (io), 57 P2_4/SEG20/~{KI4} (io), 58 P2_3/SEG19/~{KI3} (io), 59 P2_2/SEG18/~{KI2} (io), 60 P2_1/SEG17/~{KI1} (io), 61 P2_0/SEG16/~{KI0} (io), 62 P1_3/SEG11/AN15 (io), 63 P1_2/SEG10/AN14 (io), 64 P1_1/SEG9/AN13 (io), 65 P1_0/SEG8/AN12 (io), 66 P0_7/SEG7/AN11 (io), 67 P0_6/SEG6/AN10 (io), 68 P0_5/SEG5/AN9 (io), 69 P0_4/SEG4/AN8 (io), 70 P0_3/SEG3/AN7 (io), 71 P0_2/SEG2/AN6 (io), 72 P0_1/SEG1/AN5 (io), 73 P0_0/SEG0/AN4 (io), 74 VL1 (io), 75 VL2 (in), 76 VL3 (in), 77 CL2/P12_3 (io), 78 CL1/P12_2 (io), 79 VL4 (in), 80 P13_3/AN3/CLK0/LVCMP2 (io)

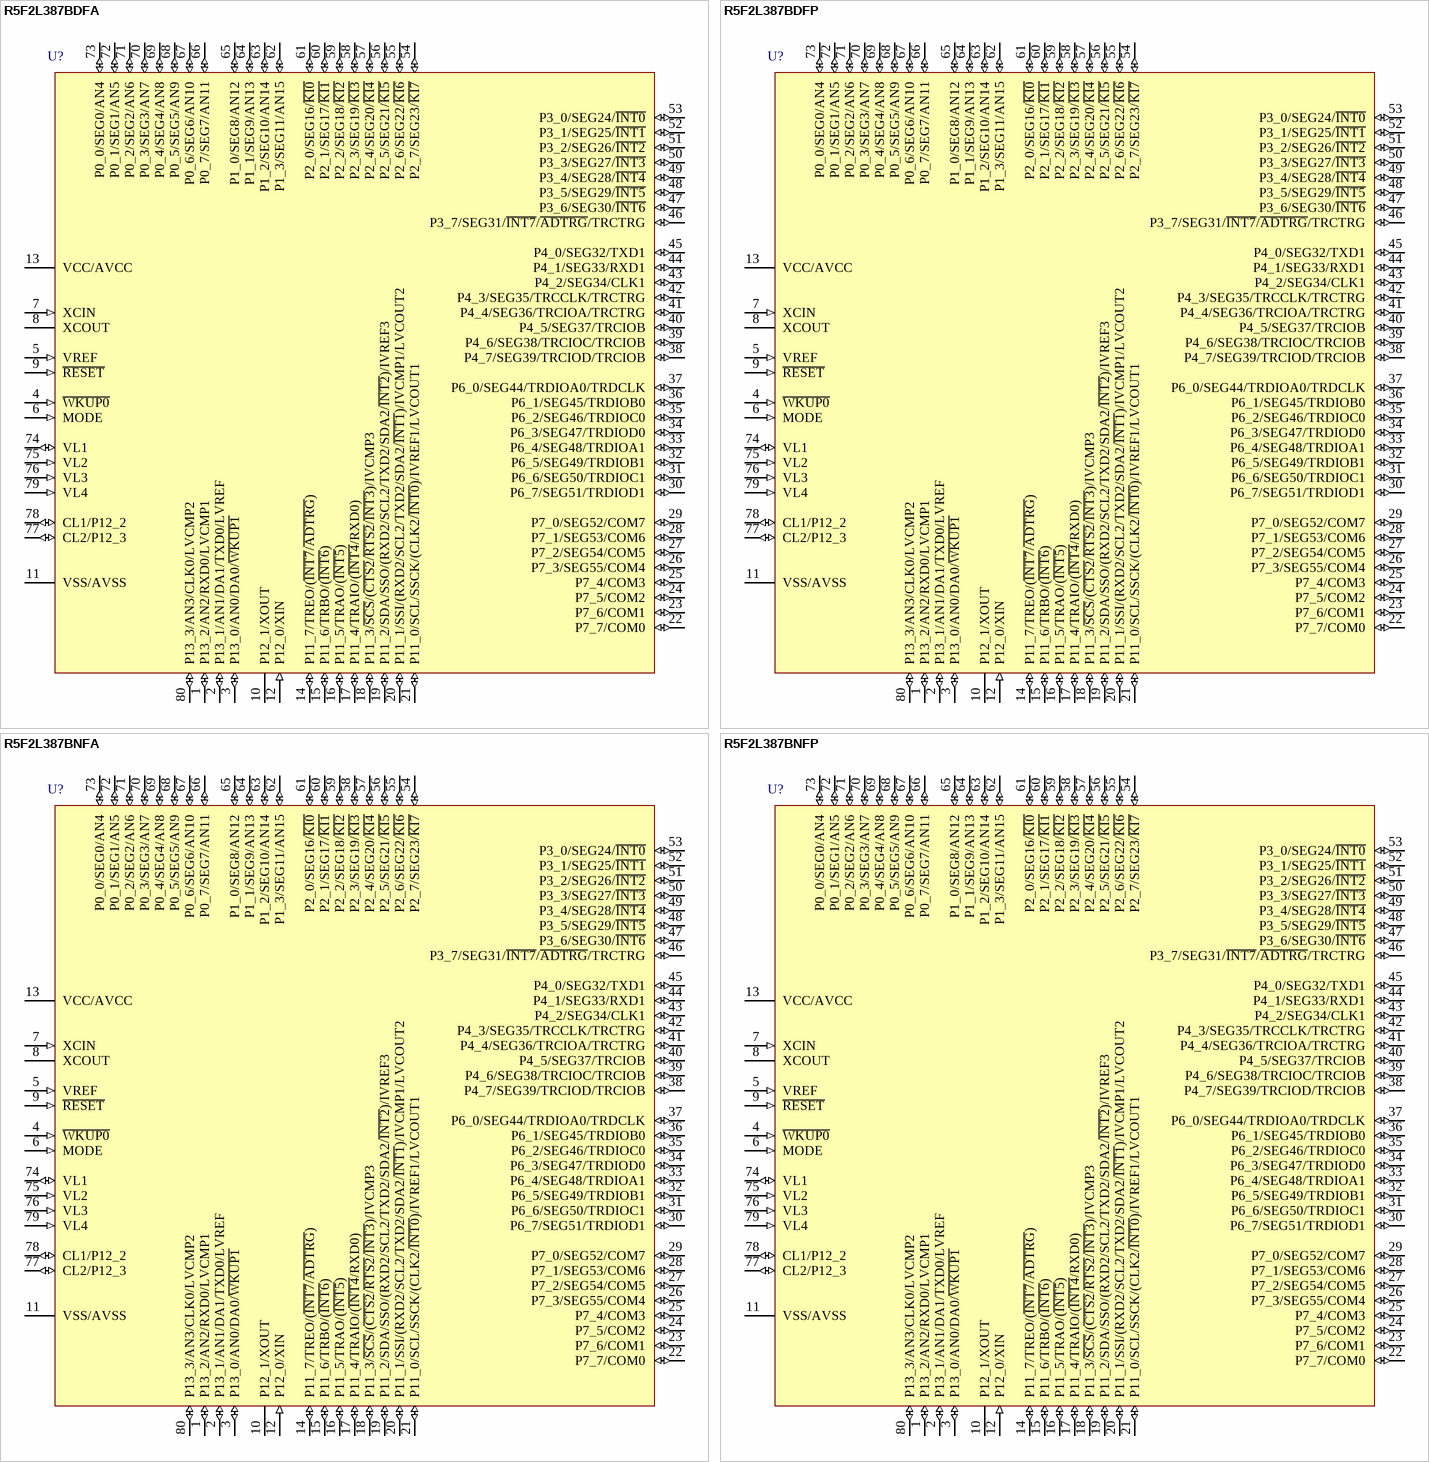
[diagram p37: symbols R5F2L387BDFA to R5F2L387BNFP]

## R5F2L387BDFA
designator U?
R8C/38B Group Single Chip 16-Bit CMOS MCU, 48K ROM, 6K RAM, D Version; Published: 30-Oct-2009; DatasheetVersion: Rev.0.30, Jan-2009; PackageVersion: Sep-2005; PackageReference: PLQP0080JA-A; Publisher: Altium Limited; PackageDescription: 80-Pin Plastic Low Profile QFP, 14 x 14 x 1.4 mm Body, 0.65 mm Pitch; Code_JEITA: P-LQFP80-14x14-0.65; ComponentLink1Description: Manufacturer Link; ComponentLink1URL: http://sg.renesas.com/fmwk.jsp?cnt=r8c_family_landing.jsp&fp=/products/mpumcu/r8c_family/; ComponentLink2Description: Datasheet; ComponentLink2URL: http://documentation.renesas.com/eng/products/mpumcu/rej03b0243_r8cl35al35b_ds.pdf; ComponentLink3Description: Packaging Specification; ComponentLink3URL: http://sg.renesas.com/media/products/common_info/package/pdf/ic/code/plqp0080ja_a.pdf
footprint PLQP0080JA-A_N (QFP, 80-Leads, Body 14x14mm, Pitch 0.65mm, IPC Medium Density)
footprint PLQP0080JA-A_L (QFP, 80-Leads, Body 14x14mm, Pitch 0.65mm, IPC High Density)
footprint PLQP0080JA-A_M (QFP, 80-Leads, Body 14x14mm, Pitch 0.65mm, IPC Low Density)
pins: 1 P13_2/AN2/RXD0/LVCMP1 (io), 2 P13_1/AN1/DA1/TXD0/LVREF (io), 3 P13_0/AN0/DA0/~{WKUP1} (io), 4 ~{WKUP0} (in), 5 VREF (in), 6 MODE (in), 7 XCIN (in), 8 XCOUT, 9 ~{RESET} (in), 10 P12_1/XOUT, 11 VSS/AVSS (power), 12 P12_0/XIN (in), 13 VCC/AVCC (power), 14 P11_7/TREO/(~{INT7}/~{ADTRG}) (io), 15 P11_6/TRBO/(~{INT6}) (io), 16 P11_5/TRAO/(~{INT5}) (io), 17 P11_4/TRAIO/(~{INT4}/RXD0) (io), 18 P11_3/~{SCS}/(~{CTS2}/~{RTS2}/~{INT3})/IVCMP3 (io), 19 P11_2/SDA/SSO/(RXD2/SCL2/TXD2/SDA2/~{INT2})/IVREF3 (io), 20 P11_1/SSI/(RXD2/SCL2/TXD2/SDA2/~{INT1})/IVCMP1/LVCOUT2 (io), 21 P11_0/SCL/SSCK/(CLK2/~{INT0})/IVREF1/LVCOUT1 (io), 22 P7_7/COM0 (io), 23 P7_6/COM1 (io), 24 P7_5/COM2 (io), 25 P7_4/COM3 (io), 26 P7_3/SEG55/COM4 (io), 27 P7_2/SEG54/COM5 (io), 28 P7_1/SEG53/COM6 (io), 29 P7_0/SEG52/COM7 (io), 30 P6_7/SEG51/TRDIOD1 (io), 31 P6_6/SEG50/TRDIOC1 (io), 32 P6_5/SEG49/TRDIOB1 (io), 33 P6_4/SEG48/TRDIOA1 (io), 34 P6_3/SEG47/TRDIOD0 (io), 35 P6_2/SEG46/TRDIOC0 (io), 36 P6_1/SEG45/TRDIOB0 (io), 37 P6_0/SEG44/TRDIOA0/TRDCLK (io), 38 P4_7/SEG39/TRCIOD/TRCIOB (io), 39 P4_6/SEG38/TRCIOC/TRCIOB (io), 40 P4_5/SEG37/TRCIOB (io), 41 P4_4/SEG36/TRCIOA/TRCTRG (io), 42 P4_3/SEG35/TRCCLK/TRCTRG (io), 43 P4_2/SEG34/CLK1 (io), 44 P4_1/SEG33/RXD1 (io), 45 P4_0/SEG32/TXD1 (io), 46 P3_7/SEG31/~{INT7}/~{ADTRG}/TRCTRG (io), 47 P3_6/SEG30/~{INT6} (io), 48 P3_5/SEG29/~{INT5} (io), 49 P3_4/SEG28/~{INT4} (io), 50 P3_3/SEG27/~{INT3} (io), 51 P3_2/SEG26/~{INT2} (io), 52 P3_1/SEG25/~{INT1} (io), 53 P3_0/SEG24/~{INT0} (io), 54 P2_7/SEG23/~{KI7} (io), 55 P2_6/SEG22/~{KI6} (io), 56 P2_5/SEG21/~{KI5} (io), 57 P2_4/SEG20/~{KI4} (io), 58 P2_3/SEG19/~{KI3} (io), 59 P2_2/SEG18/~{KI2} (io), 60 P2_1/SEG17/~{KI1} (io), 61 P2_0/SEG16/~{KI0} (io), 62 P1_3/SEG11/AN15 (io), 63 P1_2/SEG10/AN14 (io), 64 P1_1/SEG9/AN13 (io), 65 P1_0/SEG8/AN12 (io), 66 P0_7/SEG7/AN11 (io), 67 P0_6/SEG6/AN10 (io), 68 P0_5/SEG5/AN9 (io), 69 P0_4/SEG4/AN8 (io), 70 P0_3/SEG3/AN7 (io), 71 P0_2/SEG2/AN6 (io), 72 P0_1/SEG1/AN5 (io), 73 P0_0/SEG0/AN4 (io), 74 VL1 (io), 75 VL2 (in), 76 VL3 (in), 77 CL2/P12_3 (io), 78 CL1/P12_2 (io), 79 VL4 (in), 80 P13_3/AN3/CLK0/LVCMP2 (io)

## R5F2L387BDFP
designator U?
R8C/38B Group Single Chip 16-Bit CMOS MCU, 48K ROM, 6K RAM, D Version; Published: 30-Oct-2009; DatasheetVersion: Rev.0.30, Jan-2009; PackageVersion: Sep-2005; PackageReference: PLQP0080KB-A; Publisher: Altium Limited; PackageDescription: 80-Pin Plastic Low Profile QFP, 12 x 12 x 1.4 mm Body, 0.5 mm Pitch; Code_JEITA: P-LQFP80-12x12-0.50; Code_IPC: SQFP50P1400X1400-80; ComponentLink1Description: Manufacturer Link; ComponentLink1URL: http://sg.renesas.com/fmwk.jsp?cnt=r8c_family_landing.jsp&fp=/products/mpumcu/r8c_family/; ComponentLink2Description: Datasheet; ComponentLink2URL: http://documentation.renesas.com/eng/products/mpumcu/rej03b0243_r8cl35al35b_ds.pdf; ComponentLink3Description: Packaging Specification; ComponentLink3URL: http://sg.renesas.com/media/products/common_info/package/pdf/ic/code/plqp0080kb_a.pdf
footprint PLQP0080KB-A_N (Shrink QFP, 80-Leads, Body 12x12mm, Pitch 0.5mm, IPC Medium Density)
footprint PLQP0080KB-A_L (Shrink QFP, 80-Leads, Body 12x12mm, Pitch 0.5mm, IPC High Density)
footprint PLQP0080KB-A_M (Shrink QFP, 80-Leads, Body 12x12mm, Pitch 0.5mm, IPC Low Density)
pins: 1 P13_2/AN2/RXD0/LVCMP1 (io), 2 P13_1/AN1/DA1/TXD0/LVREF (io), 3 P13_0/AN0/DA0/~{WKUP1} (io), 4 ~{WKUP0} (in), 5 VREF (in), 6 MODE (in), 7 XCIN (in), 8 XCOUT, 9 ~{RESET} (in), 10 P12_1/XOUT, 11 VSS/AVSS (power), 12 P12_0/XIN (in), 13 VCC/AVCC (power), 14 P11_7/TREO/(~{INT7}/~{ADTRG}) (io), 15 P11_6/TRBO/(~{INT6}) (io), 16 P11_5/TRAO/(~{INT5}) (io), 17 P11_4/TRAIO/(~{INT4}/RXD0) (io), 18 P11_3/~{SCS}/(~{CTS2}/~{RTS2}/~{INT3})/IVCMP3 (io), 19 P11_2/SDA/SSO/(RXD2/SCL2/TXD2/SDA2/~{INT2})/IVREF3 (io), 20 P11_1/SSI/(RXD2/SCL2/TXD2/SDA2/~{INT1})/IVCMP1/LVCOUT2 (io), 21 P11_0/SCL/SSCK/(CLK2/~{INT0})/IVREF1/LVCOUT1 (io), 22 P7_7/COM0 (io), 23 P7_6/COM1 (io), 24 P7_5/COM2 (io), 25 P7_4/COM3 (io), 26 P7_3/SEG55/COM4 (io), 27 P7_2/SEG54/COM5 (io), 28 P7_1/SEG53/COM6 (io), 29 P7_0/SEG52/COM7 (io), 30 P6_7/SEG51/TRDIOD1 (io), 31 P6_6/SEG50/TRDIOC1 (io), 32 P6_5/SEG49/TRDIOB1 (io), 33 P6_4/SEG48/TRDIOA1 (io), 34 P6_3/SEG47/TRDIOD0 (io), 35 P6_2/SEG46/TRDIOC0 (io), 36 P6_1/SEG45/TRDIOB0 (io), 37 P6_0/SEG44/TRDIOA0/TRDCLK (io), 38 P4_7/SEG39/TRCIOD/TRCIOB (io), 39 P4_6/SEG38/TRCIOC/TRCIOB (io), 40 P4_5/SEG37/TRCIOB (io), 41 P4_4/SEG36/TRCIOA/TRCTRG (io), 42 P4_3/SEG35/TRCCLK/TRCTRG (io), 43 P4_2/SEG34/CLK1 (io), 44 P4_1/SEG33/RXD1 (io), 45 P4_0/SEG32/TXD1 (io), 46 P3_7/SEG31/~{INT7}/~{ADTRG}/TRCTRG (io), 47 P3_6/SEG30/~{INT6} (io), 48 P3_5/SEG29/~{INT5} (io), 49 P3_4/SEG28/~{INT4} (io), 50 P3_3/SEG27/~{INT3} (io), 51 P3_2/SEG26/~{INT2} (io), 52 P3_1/SEG25/~{INT1} (io), 53 P3_0/SEG24/~{INT0} (io), 54 P2_7/SEG23/~{KI7} (io), 55 P2_6/SEG22/~{KI6} (io), 56 P2_5/SEG21/~{KI5} (io), 57 P2_4/SEG20/~{KI4} (io), 58 P2_3/SEG19/~{KI3} (io), 59 P2_2/SEG18/~{KI2} (io), 60 P2_1/SEG17/~{KI1} (io), 61 P2_0/SEG16/~{KI0} (io), 62 P1_3/SEG11/AN15 (io), 63 P1_2/SEG10/AN14 (io), 64 P1_1/SEG9/AN13 (io), 65 P1_0/SEG8/AN12 (io), 66 P0_7/SEG7/AN11 (io), 67 P0_6/SEG6/AN10 (io), 68 P0_5/SEG5/AN9 (io), 69 P0_4/SEG4/AN8 (io), 70 P0_3/SEG3/AN7 (io), 71 P0_2/SEG2/AN6 (io), 72 P0_1/SEG1/AN5 (io), 73 P0_0/SEG0/AN4 (io), 74 VL1 (io), 75 VL2 (in), 76 VL3 (in), 77 CL2/P12_3 (io), 78 CL1/P12_2 (io), 79 VL4 (in), 80 P13_3/AN3/CLK0/LVCMP2 (io)

## R5F2L387BNFA
designator U?
R8C/38B Group Single Chip 16-Bit CMOS MCU, 48K ROM, 6K RAM, N Version; Published: 30-Oct-2009; DatasheetVersion: Rev.0.30, Jan-2009; PackageVersion: Sep-2005; PackageReference: PLQP0080JA-A; Publisher: Altium Limited; PackageDescription: 80-Pin Plastic Low Profile QFP, 14 x 14 x 1.4 mm Body, 0.65 mm Pitch; Code_JEITA: P-LQFP80-14x14-0.65; ComponentLink1Description: Manufacturer Link; ComponentLink1URL: http://sg.renesas.com/fmwk.jsp?cnt=r8c_family_landing.jsp&fp=/products/mpumcu/r8c_family/; ComponentLink2Description: Datasheet; ComponentLink2URL: http://documentation.renesas.com/eng/products/mpumcu/rej03b0243_r8cl35al35b_ds.pdf; ComponentLink3Description: Packaging Specification; ComponentLink3URL: http://sg.renesas.com/media/products/common_info/package/pdf/ic/code/plqp0080ja_a.pdf
footprint PLQP0080JA-A_N (QFP, 80-Leads, Body 14x14mm, Pitch 0.65mm, IPC Medium Density)
footprint PLQP0080JA-A_L (QFP, 80-Leads, Body 14x14mm, Pitch 0.65mm, IPC High Density)
footprint PLQP0080JA-A_M (QFP, 80-Leads, Body 14x14mm, Pitch 0.65mm, IPC Low Density)
pins: 1 P13_2/AN2/RXD0/LVCMP1 (io), 2 P13_1/AN1/DA1/TXD0/LVREF (io), 3 P13_0/AN0/DA0/~{WKUP1} (io), 4 ~{WKUP0} (in), 5 VREF (in), 6 MODE (in), 7 XCIN (in), 8 XCOUT, 9 ~{RESET} (in), 10 P12_1/XOUT, 11 VSS/AVSS (power), 12 P12_0/XIN (in), 13 VCC/AVCC (power), 14 P11_7/TREO/(~{INT7}/~{ADTRG}) (io), 15 P11_6/TRBO/(~{INT6}) (io), 16 P11_5/TRAO/(~{INT5}) (io), 17 P11_4/TRAIO/(~{INT4}/RXD0) (io), 18 P11_3/~{SCS}/(~{CTS2}/~{RTS2}/~{INT3})/IVCMP3 (io), 19 P11_2/SDA/SSO/(RXD2/SCL2/TXD2/SDA2/~{INT2})/IVREF3 (io), 20 P11_1/SSI/(RXD2/SCL2/TXD2/SDA2/~{INT1})/IVCMP1/LVCOUT2 (io), 21 P11_0/SCL/SSCK/(CLK2/~{INT0})/IVREF1/LVCOUT1 (io), 22 P7_7/COM0 (io), 23 P7_6/COM1 (io), 24 P7_5/COM2 (io), 25 P7_4/COM3 (io), 26 P7_3/SEG55/COM4 (io), 27 P7_2/SEG54/COM5 (io), 28 P7_1/SEG53/COM6 (io), 29 P7_0/SEG52/COM7 (io), 30 P6_7/SEG51/TRDIOD1 (io), 31 P6_6/SEG50/TRDIOC1 (io), 32 P6_5/SEG49/TRDIOB1 (io), 33 P6_4/SEG48/TRDIOA1 (io), 34 P6_3/SEG47/TRDIOD0 (io), 35 P6_2/SEG46/TRDIOC0 (io), 36 P6_1/SEG45/TRDIOB0 (io), 37 P6_0/SEG44/TRDIOA0/TRDCLK (io), 38 P4_7/SEG39/TRCIOD/TRCIOB (io), 39 P4_6/SEG38/TRCIOC/TRCIOB (io), 40 P4_5/SEG37/TRCIOB (io), 41 P4_4/SEG36/TRCIOA/TRCTRG (io), 42 P4_3/SEG35/TRCCLK/TRCTRG (io), 43 P4_2/SEG34/CLK1 (io), 44 P4_1/SEG33/RXD1 (io), 45 P4_0/SEG32/TXD1 (io), 46 P3_7/SEG31/~{INT7}/~{ADTRG}/TRCTRG (io), 47 P3_6/SEG30/~{INT6} (io), 48 P3_5/SEG29/~{INT5} (io), 49 P3_4/SEG28/~{INT4} (io), 50 P3_3/SEG27/~{INT3} (io), 51 P3_2/SEG26/~{INT2} (io), 52 P3_1/SEG25/~{INT1} (io), 53 P3_0/SEG24/~{INT0} (io), 54 P2_7/SEG23/~{KI7} (io), 55 P2_6/SEG22/~{KI6} (io), 56 P2_5/SEG21/~{KI5} (io), 57 P2_4/SEG20/~{KI4} (io), 58 P2_3/SEG19/~{KI3} (io), 59 P2_2/SEG18/~{KI2} (io), 60 P2_1/SEG17/~{KI1} (io), 61 P2_0/SEG16/~{KI0} (io), 62 P1_3/SEG11/AN15 (io), 63 P1_2/SEG10/AN14 (io), 64 P1_1/SEG9/AN13 (io), 65 P1_0/SEG8/AN12 (io), 66 P0_7/SEG7/AN11 (io), 67 P0_6/SEG6/AN10 (io), 68 P0_5/SEG5/AN9 (io), 69 P0_4/SEG4/AN8 (io), 70 P0_3/SEG3/AN7 (io), 71 P0_2/SEG2/AN6 (io), 72 P0_1/SEG1/AN5 (io), 73 P0_0/SEG0/AN4 (io), 74 VL1 (io), 75 VL2 (in), 76 VL3 (in), 77 CL2/P12_3 (io), 78 CL1/P12_2 (io), 79 VL4 (in), 80 P13_3/AN3/CLK0/LVCMP2 (io)

## R5F2L387BNFP
designator U?
R8C/38B Group Single Chip 16-Bit CMOS MCU, 48K ROM, 6K RAM, N Version; Published: 30-Oct-2009; DatasheetVersion: Rev.0.30, Jan-2009; PackageVersion: Sep-2005; PackageReference: PLQP0080KB-A; Publisher: Altium Limited; PackageDescription: 80-Pin Plastic Low Profile QFP, 12 x 12 x 1.4 mm Body, 0.5 mm Pitch; Code_JEITA: P-LQFP80-12x12-0.50; Code_IPC: SQFP50P1400X1400-80; ComponentLink1Description: Manufacturer Link; ComponentLink1URL: http://sg.renesas.com/fmwk.jsp?cnt=r8c_family_landing.jsp&fp=/products/mpumcu/r8c_family/; ComponentLink2Description: Datasheet; ComponentLink2URL: http://documentation.renesas.com/eng/products/mpumcu/rej03b0243_r8cl35al35b_ds.pdf; ComponentLink3Description: Packaging Specification; ComponentLink3URL: http://sg.renesas.com/media/products/common_info/package/pdf/ic/code/plqp0080kb_a.pdf
footprint PLQP0080KB-A_N (Shrink QFP, 80-Leads, Body 12x12mm, Pitch 0.5mm, IPC Medium Density)
footprint PLQP0080KB-A_L (Shrink QFP, 80-Leads, Body 12x12mm, Pitch 0.5mm, IPC High Density)
footprint PLQP0080KB-A_M (Shrink QFP, 80-Leads, Body 12x12mm, Pitch 0.5mm, IPC Low Density)
pins: 1 P13_2/AN2/RXD0/LVCMP1 (io), 2 P13_1/AN1/DA1/TXD0/LVREF (io), 3 P13_0/AN0/DA0/~{WKUP1} (io), 4 ~{WKUP0} (in), 5 VREF (in), 6 MODE (in), 7 XCIN (in), 8 XCOUT, 9 ~{RESET} (in), 10 P12_1/XOUT, 11 VSS/AVSS (power), 12 P12_0/XIN (in), 13 VCC/AVCC (power), 14 P11_7/TREO/(~{INT7}/~{ADTRG}) (io), 15 P11_6/TRBO/(~{INT6}) (io), 16 P11_5/TRAO/(~{INT5}) (io), 17 P11_4/TRAIO/(~{INT4}/RXD0) (io), 18 P11_3/~{SCS}/(~{CTS2}/~{RTS2}/~{INT3})/IVCMP3 (io), 19 P11_2/SDA/SSO/(RXD2/SCL2/TXD2/SDA2/~{INT2})/IVREF3 (io), 20 P11_1/SSI/(RXD2/SCL2/TXD2/SDA2/~{INT1})/IVCMP1/LVCOUT2 (io), 21 P11_0/SCL/SSCK/(CLK2/~{INT0})/IVREF1/LVCOUT1 (io), 22 P7_7/COM0 (io), 23 P7_6/COM1 (io), 24 P7_5/COM2 (io), 25 P7_4/COM3 (io), 26 P7_3/SEG55/COM4 (io), 27 P7_2/SEG54/COM5 (io), 28 P7_1/SEG53/COM6 (io), 29 P7_0/SEG52/COM7 (io), 30 P6_7/SEG51/TRDIOD1 (io), 31 P6_6/SEG50/TRDIOC1 (io), 32 P6_5/SEG49/TRDIOB1 (io), 33 P6_4/SEG48/TRDIOA1 (io), 34 P6_3/SEG47/TRDIOD0 (io), 35 P6_2/SEG46/TRDIOC0 (io), 36 P6_1/SEG45/TRDIOB0 (io), 37 P6_0/SEG44/TRDIOA0/TRDCLK (io), 38 P4_7/SEG39/TRCIOD/TRCIOB (io), 39 P4_6/SEG38/TRCIOC/TRCIOB (io), 40 P4_5/SEG37/TRCIOB (io), 41 P4_4/SEG36/TRCIOA/TRCTRG (io), 42 P4_3/SEG35/TRCCLK/TRCTRG (io), 43 P4_2/SEG34/CLK1 (io), 44 P4_1/SEG33/RXD1 (io), 45 P4_0/SEG32/TXD1 (io), 46 P3_7/SEG31/~{INT7}/~{ADTRG}/TRCTRG (io), 47 P3_6/SEG30/~{INT6} (io), 48 P3_5/SEG29/~{INT5} (io), 49 P3_4/SEG28/~{INT4} (io), 50 P3_3/SEG27/~{INT3} (io), 51 P3_2/SEG26/~{INT2} (io), 52 P3_1/SEG25/~{INT1} (io), 53 P3_0/SEG24/~{INT0} (io), 54 P2_7/SEG23/~{KI7} (io), 55 P2_6/SEG22/~{KI6} (io), 56 P2_5/SEG21/~{KI5} (io), 57 P2_4/SEG20/~{KI4} (io), 58 P2_3/SEG19/~{KI3} (io), 59 P2_2/SEG18/~{KI2} (io), 60 P2_1/SEG17/~{KI1} (io), 61 P2_0/SEG16/~{KI0} (io), 62 P1_3/SEG11/AN15 (io), 63 P1_2/SEG10/AN14 (io), 64 P1_1/SEG9/AN13 (io), 65 P1_0/SEG8/AN12 (io), 66 P0_7/SEG7/AN11 (io), 67 P0_6/SEG6/AN10 (io), 68 P0_5/SEG5/AN9 (io), 69 P0_4/SEG4/AN8 (io), 70 P0_3/SEG3/AN7 (io), 71 P0_2/SEG2/AN6 (io), 72 P0_1/SEG1/AN5 (io), 73 P0_0/SEG0/AN4 (io), 74 VL1 (io), 75 VL2 (in), 76 VL3 (in), 77 CL2/P12_3 (io), 78 CL1/P12_2 (io), 79 VL4 (in), 80 P13_3/AN3/CLK0/LVCMP2 (io)

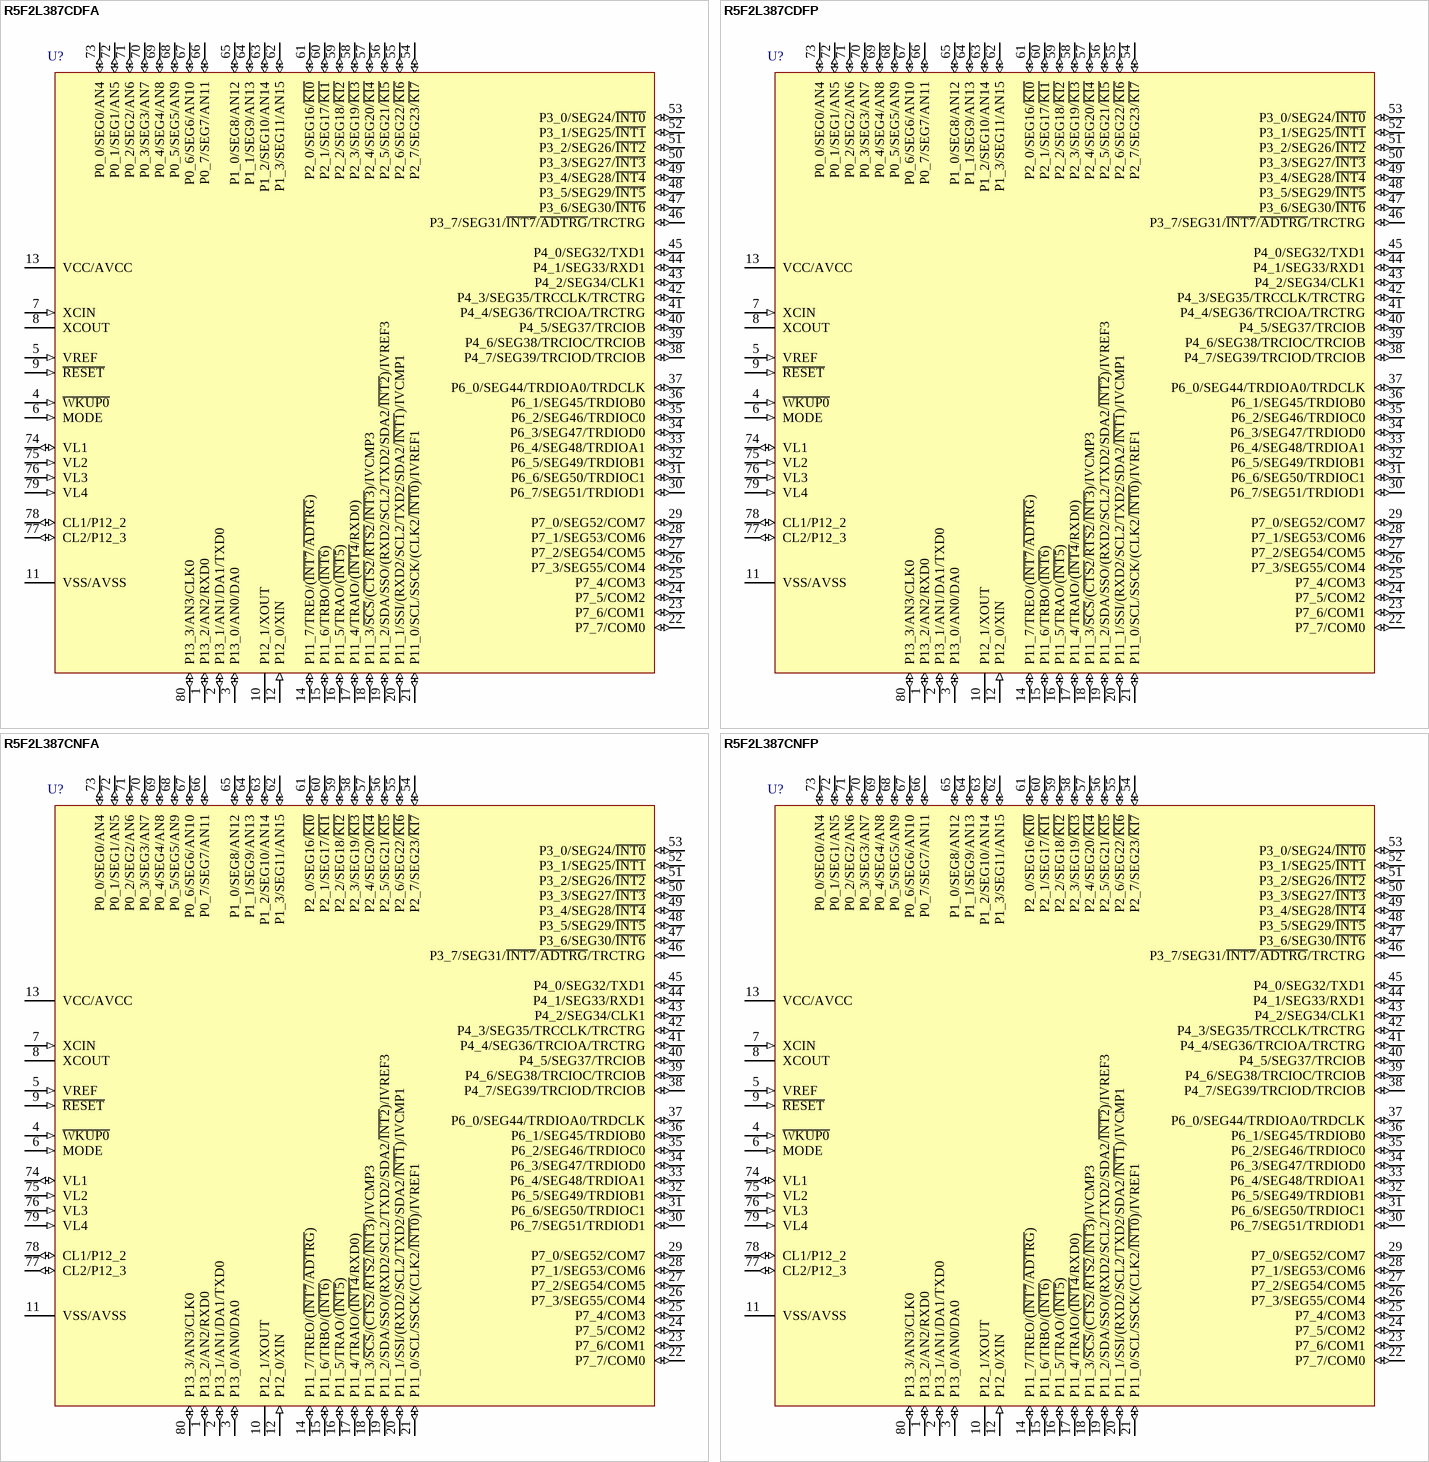
[diagram p38: symbols R5F2L387CDFA to R5F2L387CNFP]

## R5F2L387CDFA
designator U?
R8C/L38C Group Single Chip 16-Bit CMOS MCU, 48K + 4K ROM, 6K RAM, D Version; Published: 17-Feb-2010; DatasheetVersion: Rev.0.10, Oct-2009; PackageVersion: Sep-2005; PackageReference: PLQP0080JA-A; Publisher: Altium Limited; PackageDescription: 80-Pin Plastic Low Profile QFP, 14 x 14 x 1.4 mm Body, 0.65 mm Pitch; Code_JEITA: P-LQFP80-14x14-0.65; ComponentLink1Description: Manufacturer Link; ComponentLink1URL: http://sg.renesas.com/fmwk.jsp?cnt=r8c_family_landing.jsp&fp=/products/mpumcu/r8c_family/; ComponentLink2Description: Datasheet; ComponentLink2URL: http://documentation.renesas.com/eng/products/mpumcu/rej03b0293_r8cl3acds.pdf; ComponentLink3Description: Packaging Specification; ComponentLink3URL: http://sg.renesas.com/media/products/common_info/package/pdf/ic/code/plqp0080ja_a.pdf
footprint PLQP0080JA-A_N (QFP, 80-Leads, Body 14x14mm, Pitch 0.65mm, IPC Medium Density)
footprint PLQP0080JA-A_L (QFP, 80-Leads, Body 14x14mm, Pitch 0.65mm, IPC High Density)
footprint PLQP0080JA-A_M (QFP, 80-Leads, Body 14x14mm, Pitch 0.65mm, IPC Low Density)
pins: 1 P13_2/AN2/RXD0 (io), 2 P13_1/AN1/DA1/TXD0 (io), 3 P13_0/AN0/DA0 (io), 4 ~{WKUP0} (in), 5 VREF (in), 6 MODE (in), 7 XCIN (in), 8 XCOUT, 9 ~{RESET} (in), 10 P12_1/XOUT, 11 VSS/AVSS (power), 12 P12_0/XIN (in), 13 VCC/AVCC (power), 14 P11_7/TREO/(~{INT7}/~{ADTRG}) (io), 15 P11_6/TRBO/(~{INT6}) (io), 16 P11_5/TRAO/(~{INT5}) (io), 17 P11_4/TRAIO/(~{INT4}/RXD0) (io), 18 P11_3/~{SCS}/(~{CTS2}/~{RTS2}/~{INT3})/IVCMP3 (io), 19 P11_2/SDA/SSO/(RXD2/SCL2/TXD2/SDA2/~{INT2})/IVREF3 (io), 20 P11_1/SSI/(RXD2/SCL2/TXD2/SDA2/~{INT1})/IVCMP1 (io), 21 P11_0/SCL/SSCK/(CLK2/~{INT0})/IVREF1 (io), 22 P7_7/COM0 (io), 23 P7_6/COM1 (io), 24 P7_5/COM2 (io), 25 P7_4/COM3 (io), 26 P7_3/SEG55/COM4 (io), 27 P7_2/SEG54/COM5 (io), 28 P7_1/SEG53/COM6 (io), 29 P7_0/SEG52/COM7 (io), 30 P6_7/SEG51/TRDIOD1 (io), 31 P6_6/SEG50/TRDIOC1 (io), 32 P6_5/SEG49/TRDIOB1 (io), 33 P6_4/SEG48/TRDIOA1 (io), 34 P6_3/SEG47/TRDIOD0 (io), 35 P6_2/SEG46/TRDIOC0 (io), 36 P6_1/SEG45/TRDIOB0 (io), 37 P6_0/SEG44/TRDIOA0/TRDCLK (io), 38 P4_7/SEG39/TRCIOD/TRCIOB (io), 39 P4_6/SEG38/TRCIOC/TRCIOB (io), 40 P4_5/SEG37/TRCIOB (io), 41 P4_4/SEG36/TRCIOA/TRCTRG (io), 42 P4_3/SEG35/TRCCLK/TRCTRG (io), 43 P4_2/SEG34/CLK1 (io), 44 P4_1/SEG33/RXD1 (io), 45 P4_0/SEG32/TXD1 (io), 46 P3_7/SEG31/~{INT7}/~{ADTRG}/TRCTRG (io), 47 P3_6/SEG30/~{INT6} (io), 48 P3_5/SEG29/~{INT5} (io), 49 P3_4/SEG28/~{INT4} (io), 50 P3_3/SEG27/~{INT3} (io), 51 P3_2/SEG26/~{INT2} (io), 52 P3_1/SEG25/~{INT1} (io), 53 P3_0/SEG24/~{INT0} (io), 54 P2_7/SEG23/~{KI7} (io), 55 P2_6/SEG22/~{KI6} (io), 56 P2_5/SEG21/~{KI5} (io), 57 P2_4/SEG20/~{KI4} (io), 58 P2_3/SEG19/~{KI3} (io), 59 P2_2/SEG18/~{KI2} (io), 60 P2_1/SEG17/~{KI1} (io), 61 P2_0/SEG16/~{KI0} (io), 62 P1_3/SEG11/AN15 (io), 63 P1_2/SEG10/AN14 (io), 64 P1_1/SEG9/AN13 (io), 65 P1_0/SEG8/AN12 (io), 66 P0_7/SEG7/AN11 (io), 67 P0_6/SEG6/AN10 (io), 68 P0_5/SEG5/AN9 (io), 69 P0_4/SEG4/AN8 (io), 70 P0_3/SEG3/AN7 (io), 71 P0_2/SEG2/AN6 (io), 72 P0_1/SEG1/AN5 (io), 73 P0_0/SEG0/AN4 (io), 74 VL1 (io), 75 VL2 (in), 76 VL3 (in), 77 CL2/P12_3 (io), 78 CL1/P12_2 (io), 79 VL4 (in), 80 P13_3/AN3/CLK0 (io)

## R5F2L387CDFP
designator U?
R8C/L38C Group Single Chip 16-Bit CMOS MCU, 48K + 4K ROM, 6K RAM, D Version; Published: 17-Feb-2010; DatasheetVersion: Rev.0.10, Oct-2009; PackageVersion: Sep-2005; PackageReference: PLQP0080KB-A; Publisher: Altium Limited; PackageDescription: 80-Pin Plastic Low Profile QFP, 12 x 12 x 1.4 mm Body, 0.5 mm Pitch; Code_JEITA: P-LQFP80-12x12-0.50; Code_IPC: SQFP50P1400X1400-80; ComponentLink1Description: Manufacturer Link; ComponentLink1URL: http://sg.renesas.com/fmwk.jsp?cnt=r8c_family_landing.jsp&fp=/products/mpumcu/r8c_family/; ComponentLink2Description: Datasheet; ComponentLink2URL: http://documentation.renesas.com/eng/products/mpumcu/rej03b0293_r8cl3acds.pdf; ComponentLink3Description: Packaging Specification; ComponentLink3URL: http://sg.renesas.com/media/products/common_info/package/pdf/ic/code/plqp0080kb_a.pdf
footprint PLQP0080KB-A_N (Shrink QFP, 80-Leads, Body 12x12mm, Pitch 0.5mm, IPC Medium Density)
footprint PLQP0080KB-A_L (Shrink QFP, 80-Leads, Body 12x12mm, Pitch 0.5mm, IPC High Density)
footprint PLQP0080KB-A_M (Shrink QFP, 80-Leads, Body 12x12mm, Pitch 0.5mm, IPC Low Density)
pins: 1 P13_2/AN2/RXD0 (io), 2 P13_1/AN1/DA1/TXD0 (io), 3 P13_0/AN0/DA0 (io), 4 ~{WKUP0} (in), 5 VREF (in), 6 MODE (in), 7 XCIN (in), 8 XCOUT, 9 ~{RESET} (in), 10 P12_1/XOUT, 11 VSS/AVSS (power), 12 P12_0/XIN (in), 13 VCC/AVCC (power), 14 P11_7/TREO/(~{INT7}/~{ADTRG}) (io), 15 P11_6/TRBO/(~{INT6}) (io), 16 P11_5/TRAO/(~{INT5}) (io), 17 P11_4/TRAIO/(~{INT4}/RXD0) (io), 18 P11_3/~{SCS}/(~{CTS2}/~{RTS2}/~{INT3})/IVCMP3 (io), 19 P11_2/SDA/SSO/(RXD2/SCL2/TXD2/SDA2/~{INT2})/IVREF3 (io), 20 P11_1/SSI/(RXD2/SCL2/TXD2/SDA2/~{INT1})/IVCMP1 (io), 21 P11_0/SCL/SSCK/(CLK2/~{INT0})/IVREF1 (io), 22 P7_7/COM0 (io), 23 P7_6/COM1 (io), 24 P7_5/COM2 (io), 25 P7_4/COM3 (io), 26 P7_3/SEG55/COM4 (io), 27 P7_2/SEG54/COM5 (io), 28 P7_1/SEG53/COM6 (io), 29 P7_0/SEG52/COM7 (io), 30 P6_7/SEG51/TRDIOD1 (io), 31 P6_6/SEG50/TRDIOC1 (io), 32 P6_5/SEG49/TRDIOB1 (io), 33 P6_4/SEG48/TRDIOA1 (io), 34 P6_3/SEG47/TRDIOD0 (io), 35 P6_2/SEG46/TRDIOC0 (io), 36 P6_1/SEG45/TRDIOB0 (io), 37 P6_0/SEG44/TRDIOA0/TRDCLK (io), 38 P4_7/SEG39/TRCIOD/TRCIOB (io), 39 P4_6/SEG38/TRCIOC/TRCIOB (io), 40 P4_5/SEG37/TRCIOB (io), 41 P4_4/SEG36/TRCIOA/TRCTRG (io), 42 P4_3/SEG35/TRCCLK/TRCTRG (io), 43 P4_2/SEG34/CLK1 (io), 44 P4_1/SEG33/RXD1 (io), 45 P4_0/SEG32/TXD1 (io), 46 P3_7/SEG31/~{INT7}/~{ADTRG}/TRCTRG (io), 47 P3_6/SEG30/~{INT6} (io), 48 P3_5/SEG29/~{INT5} (io), 49 P3_4/SEG28/~{INT4} (io), 50 P3_3/SEG27/~{INT3} (io), 51 P3_2/SEG26/~{INT2} (io), 52 P3_1/SEG25/~{INT1} (io), 53 P3_0/SEG24/~{INT0} (io), 54 P2_7/SEG23/~{KI7} (io), 55 P2_6/SEG22/~{KI6} (io), 56 P2_5/SEG21/~{KI5} (io), 57 P2_4/SEG20/~{KI4} (io), 58 P2_3/SEG19/~{KI3} (io), 59 P2_2/SEG18/~{KI2} (io), 60 P2_1/SEG17/~{KI1} (io), 61 P2_0/SEG16/~{KI0} (io), 62 P1_3/SEG11/AN15 (io), 63 P1_2/SEG10/AN14 (io), 64 P1_1/SEG9/AN13 (io), 65 P1_0/SEG8/AN12 (io), 66 P0_7/SEG7/AN11 (io), 67 P0_6/SEG6/AN10 (io), 68 P0_5/SEG5/AN9 (io), 69 P0_4/SEG4/AN8 (io), 70 P0_3/SEG3/AN7 (io), 71 P0_2/SEG2/AN6 (io), 72 P0_1/SEG1/AN5 (io), 73 P0_0/SEG0/AN4 (io), 74 VL1 (io), 75 VL2 (in), 76 VL3 (in), 77 CL2/P12_3 (io), 78 CL1/P12_2 (io), 79 VL4 (in), 80 P13_3/AN3/CLK0 (io)

## R5F2L387CNFA
designator U?
R8C/L38C Group Single Chip 16-Bit CMOS MCU, 48K + 4K ROM, 6K RAM, N Version; Published: 17-Feb-2010; DatasheetVersion: Rev.0.10, Oct-2009; PackageVersion: Sep-2005; PackageReference: PLQP0080JA-A; Publisher: Altium Limited; PackageDescription: 80-Pin Plastic Low Profile QFP, 14 x 14 x 1.4 mm Body, 0.65 mm Pitch; Code_JEITA: P-LQFP80-14x14-0.65; ComponentLink1Description: Manufacturer Link; ComponentLink1URL: http://sg.renesas.com/fmwk.jsp?cnt=r8c_family_landing.jsp&fp=/products/mpumcu/r8c_family/; ComponentLink2Description: Datasheet; ComponentLink2URL: http://documentation.renesas.com/eng/products/mpumcu/rej03b0293_r8cl3acds.pdf; ComponentLink3Description: Packaging Specification; ComponentLink3URL: http://sg.renesas.com/media/products/common_info/package/pdf/ic/code/plqp0080ja_a.pdf
footprint PLQP0080JA-A_N (QFP, 80-Leads, Body 14x14mm, Pitch 0.65mm, IPC Medium Density)
footprint PLQP0080JA-A_L (QFP, 80-Leads, Body 14x14mm, Pitch 0.65mm, IPC High Density)
footprint PLQP0080JA-A_M (QFP, 80-Leads, Body 14x14mm, Pitch 0.65mm, IPC Low Density)
pins: 1 P13_2/AN2/RXD0 (io), 2 P13_1/AN1/DA1/TXD0 (io), 3 P13_0/AN0/DA0 (io), 4 ~{WKUP0} (in), 5 VREF (in), 6 MODE (in), 7 XCIN (in), 8 XCOUT, 9 ~{RESET} (in), 10 P12_1/XOUT, 11 VSS/AVSS (power), 12 P12_0/XIN (in), 13 VCC/AVCC (power), 14 P11_7/TREO/(~{INT7}/~{ADTRG}) (io), 15 P11_6/TRBO/(~{INT6}) (io), 16 P11_5/TRAO/(~{INT5}) (io), 17 P11_4/TRAIO/(~{INT4}/RXD0) (io), 18 P11_3/~{SCS}/(~{CTS2}/~{RTS2}/~{INT3})/IVCMP3 (io), 19 P11_2/SDA/SSO/(RXD2/SCL2/TXD2/SDA2/~{INT2})/IVREF3 (io), 20 P11_1/SSI/(RXD2/SCL2/TXD2/SDA2/~{INT1})/IVCMP1 (io), 21 P11_0/SCL/SSCK/(CLK2/~{INT0})/IVREF1 (io), 22 P7_7/COM0 (io), 23 P7_6/COM1 (io), 24 P7_5/COM2 (io), 25 P7_4/COM3 (io), 26 P7_3/SEG55/COM4 (io), 27 P7_2/SEG54/COM5 (io), 28 P7_1/SEG53/COM6 (io), 29 P7_0/SEG52/COM7 (io), 30 P6_7/SEG51/TRDIOD1 (io), 31 P6_6/SEG50/TRDIOC1 (io), 32 P6_5/SEG49/TRDIOB1 (io), 33 P6_4/SEG48/TRDIOA1 (io), 34 P6_3/SEG47/TRDIOD0 (io), 35 P6_2/SEG46/TRDIOC0 (io), 36 P6_1/SEG45/TRDIOB0 (io), 37 P6_0/SEG44/TRDIOA0/TRDCLK (io), 38 P4_7/SEG39/TRCIOD/TRCIOB (io), 39 P4_6/SEG38/TRCIOC/TRCIOB (io), 40 P4_5/SEG37/TRCIOB (io), 41 P4_4/SEG36/TRCIOA/TRCTRG (io), 42 P4_3/SEG35/TRCCLK/TRCTRG (io), 43 P4_2/SEG34/CLK1 (io), 44 P4_1/SEG33/RXD1 (io), 45 P4_0/SEG32/TXD1 (io), 46 P3_7/SEG31/~{INT7}/~{ADTRG}/TRCTRG (io), 47 P3_6/SEG30/~{INT6} (io), 48 P3_5/SEG29/~{INT5} (io), 49 P3_4/SEG28/~{INT4} (io), 50 P3_3/SEG27/~{INT3} (io), 51 P3_2/SEG26/~{INT2} (io), 52 P3_1/SEG25/~{INT1} (io), 53 P3_0/SEG24/~{INT0} (io), 54 P2_7/SEG23/~{KI7} (io), 55 P2_6/SEG22/~{KI6} (io), 56 P2_5/SEG21/~{KI5} (io), 57 P2_4/SEG20/~{KI4} (io), 58 P2_3/SEG19/~{KI3} (io), 59 P2_2/SEG18/~{KI2} (io), 60 P2_1/SEG17/~{KI1} (io), 61 P2_0/SEG16/~{KI0} (io), 62 P1_3/SEG11/AN15 (io), 63 P1_2/SEG10/AN14 (io), 64 P1_1/SEG9/AN13 (io), 65 P1_0/SEG8/AN12 (io), 66 P0_7/SEG7/AN11 (io), 67 P0_6/SEG6/AN10 (io), 68 P0_5/SEG5/AN9 (io), 69 P0_4/SEG4/AN8 (io), 70 P0_3/SEG3/AN7 (io), 71 P0_2/SEG2/AN6 (io), 72 P0_1/SEG1/AN5 (io), 73 P0_0/SEG0/AN4 (io), 74 VL1 (io), 75 VL2 (in), 76 VL3 (in), 77 CL2/P12_3 (io), 78 CL1/P12_2 (io), 79 VL4 (in), 80 P13_3/AN3/CLK0 (io)